# Altium schematic symbol library MCU_Texas.SchLib: 23 symbols
Pins are listed as number, name and electrical type; pins without a type are passive.

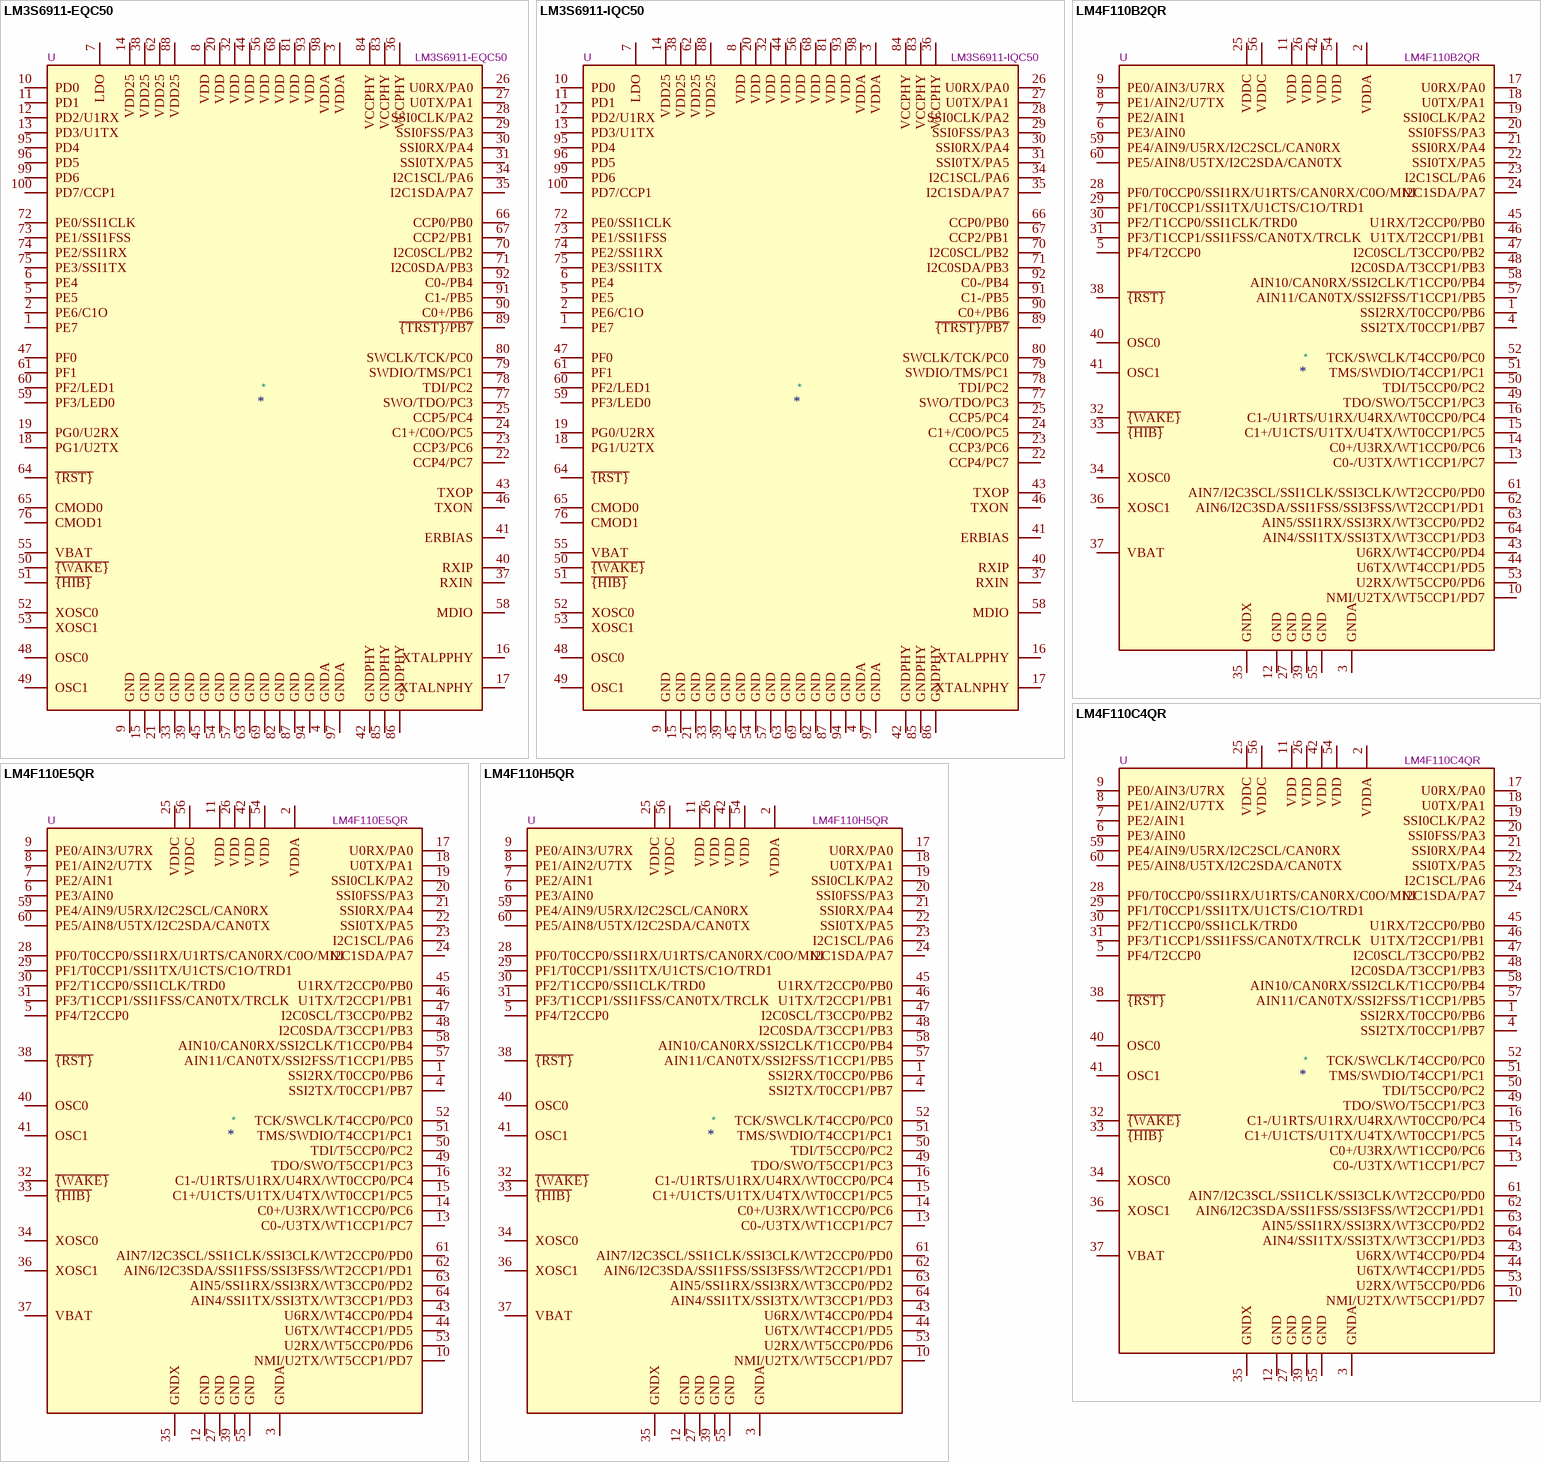
[diagram p0: symbols LM3S6911-EQC50 to LM4F110H5QR]

## LM3S6911-EQC50
designator *  value LM3S6911-EQC50  Reference: U
Ti Stellaris ARM-M3 MCU Ethernet PHY, LQFP100; ki_keywords: MCU ARM M3 Stellaris PHY ETH NRND; ki_fp_filters: LQFP*14x14mm*P0.5mm*; Footprint: Package_QFP:LQFP-100_14x14mm_P0.5mm; Datasheet: http://www.ti.com/lit/ds/symlink/lm3s6911.pdf; Description_: Ti Stellaris ARM-M3 MCU Ethernet PHY, LQFP100
pins: 1 PE7, 2 PE6/C1O, 3 VDDA, 4 GNDA, 5 PE5, 6 PE4, 7 LDO, 8 VDD, 9 GND, 10 PD0, 11 PD1, 12 PD2/U1RX, 13 PD3/U1TX, 14 VDD25, 15 GND, 16 XTALPPHY, 17 XTALNPHY, 18 PG1/U2TX, 19 PG0/U2RX, 20 VDD, 21 GND, 22 CCP4/PC7, 23 CCP3/PC6, 24 C1+/C0O/PC5, 25 CCP5/PC4, 26 U0RX/PA0, 27 U0TX/PA1, 28 SSI0CLK/PA2, 29 SSI0FSS/PA3, 30 SSI0RX/PA4, 31 SSI0TX/PA5, 32 VDD, 33 GND, 34 I2C1SCL/PA6, 35 I2C1SDA/PA7, 36 VCCPHY, 37 RXIN, 38 VDD25, 39 GND, 40 RXIP, 41 ERBIAS, 42 GNDPHY, 43 TXOP, 44 VDD, 45 GND, 46 TXON, 47 PF0, 48 OSC0, 49 OSC1, 50 ~{{WAKE}}, 51 ~{{HIB}}, 52 XOSC0, 53 XOSC1, 54 GND, 55 VBAT, 56 VDD, 57 GND, 58 MDIO, 59 PF3/LED0, 60 PF2/LED1, 61 PF1, 62 VDD25, 63 GND, 64 ~{{RST}}, 65 CMOD0, 66 CCP0/PB0, 67 CCP2/PB1, 68 VDD, 69 GND, 70 I2C0SCL/PB2, 71 I2C0SDA/PB3, 72 PE0/SSI1CLK, 73 PE1/SSI1FSS, 74 PE2/SSI1RX, 75 PE3/SSI1TX, 76 CMOD1, 77 SWO/TDO/PC3, 78 TDI/PC2, 79 SWDIO/TMS/PC1, 80 SWCLK/TCK/PC0, 81 VDD, 82 GND, 83 VCCPHY, 84 VCCPHY, 85 GNDPHY, 86 GNDPHY, 87 GND, 88 VDD25, 89 ~{{TRST}/PB7}, 90 C0+/PB6, 91 C1-/PB5, 92 C0-/PB4, 93 VDD, 94 GND, 95 PD4, 96 PD5, 97 GNDA, 98 VDDA, 99 PD6, 100 PD7/CCP1

## LM3S6911-IQC50
designator *  value LM3S6911-IQC50  Reference: U
Ti Stellaris ARM-M3 MCU Ethernet PHY, Industrial grade, LQFP100; ki_keywords: MCU ARM M3 Stellaris PHY ETH NRND; ki_fp_filters: LQFP*14x14mm*P0.5mm*; Footprint: Package_QFP:LQFP-100_14x14mm_P0.5mm; Datasheet: http://www.ti.com/lit/ds/symlink/lm3s6911.pdf; Description_: Ti Stellaris ARM-M3 MCU Ethernet PHY, Industrial grade, LQFP100
pins: 1 PE7, 2 PE6/C1O, 3 VDDA, 4 GNDA, 5 PE5, 6 PE4, 7 LDO, 8 VDD, 9 GND, 10 PD0, 11 PD1, 12 PD2/U1RX, 13 PD3/U1TX, 14 VDD25, 15 GND, 16 XTALPPHY, 17 XTALNPHY, 18 PG1/U2TX, 19 PG0/U2RX, 20 VDD, 21 GND, 22 CCP4/PC7, 23 CCP3/PC6, 24 C1+/C0O/PC5, 25 CCP5/PC4, 26 U0RX/PA0, 27 U0TX/PA1, 28 SSI0CLK/PA2, 29 SSI0FSS/PA3, 30 SSI0RX/PA4, 31 SSI0TX/PA5, 32 VDD, 33 GND, 34 I2C1SCL/PA6, 35 I2C1SDA/PA7, 36 VCCPHY, 37 RXIN, 38 VDD25, 39 GND, 40 RXIP, 41 ERBIAS, 42 GNDPHY, 43 TXOP, 44 VDD, 45 GND, 46 TXON, 47 PF0, 48 OSC0, 49 OSC1, 50 ~{{WAKE}}, 51 ~{{HIB}}, 52 XOSC0, 53 XOSC1, 54 GND, 55 VBAT, 56 VDD, 57 GND, 58 MDIO, 59 PF3/LED0, 60 PF2/LED1, 61 PF1, 62 VDD25, 63 GND, 64 ~{{RST}}, 65 CMOD0, 66 CCP0/PB0, 67 CCP2/PB1, 68 VDD, 69 GND, 70 I2C0SCL/PB2, 71 I2C0SDA/PB3, 72 PE0/SSI1CLK, 73 PE1/SSI1FSS, 74 PE2/SSI1RX, 75 PE3/SSI1TX, 76 CMOD1, 77 SWO/TDO/PC3, 78 TDI/PC2, 79 SWDIO/TMS/PC1, 80 SWCLK/TCK/PC0, 81 VDD, 82 GND, 83 VCCPHY, 84 VCCPHY, 85 GNDPHY, 86 GNDPHY, 87 GND, 88 VDD25, 89 ~{{TRST}/PB7}, 90 C0+/PB6, 91 C1-/PB5, 92 C0-/PB4, 93 VDD, 94 GND, 95 PD4, 96 PD5, 97 GNDA, 98 VDDA, 99 PD6, 100 PD7/CCP1

## LM4F110B2QR
designator *  value LM4F110B2QR  Reference: U
Replaced by TM4C1231C3PM, LQFP64; ki_keywords: ARM Stellaris Cortex M4 MCU NRND; ki_fp_filters: LQFP*10x10mm*P0.5*; Footprint: Package_QFP:LQFP-64_10x10mm_P0.5mm; Datasheet: http://www.ti.com/lit/ds/symlink/tm4c1231c3pm.pdf; Description_: Replaced by TM4C1231C3PM, LQFP64
pins: 1 SSI2RX/T0CCP0/PB6, 2 VDDA, 3 GNDA, 4 SSI2TX/T0CCP1/PB7, 5 PF4/T2CCP0, 6 PE3/AIN0, 7 PE2/AIN1, 8 PE1/AIN2/U7TX, 9 PE0/AIN3/U7RX, 10 NMI/U2TX/WT5CCP1/PD7, 11 VDD, 12 GND, 13 C0-/U3TX/WT1CCP1/PC7, 14 C0+/U3RX/WT1CCP0/PC6, 15 C1+/U1CTS/U1TX/U4TX/WT0CCP1/PC5, 16 C1-/U1RTS/U1RX/U4RX/WT0CCP0/PC4, 17 U0RX/PA0, 18 U0TX/PA1, 19 SSI0CLK/PA2, 20 SSI0FSS/PA3, 21 SSI0RX/PA4, 22 SSI0TX/PA5, 23 I2C1SCL/PA6, 24 I2C1SDA/PA7, 25 VDDC, 26 VDD, 27 GND, 28 PF0/T0CCP0/SSI1RX/U1RTS/CAN0RX/C0O/MNI, 29 PF1/T0CCP1/SSI1TX/U1CTS/C1O/TRD1, 30 PF2/T1CCP0/SSI1CLK/TRD0, 31 PF3/T1CCP1/SSI1FSS/CAN0TX/TRCLK, 32 ~{{WAKE}}, 33 ~{{HIB}}, 34 XOSC0, 35 GNDX, 36 XOSC1, 37 VBAT, 38 ~{{RST}}, 39 GND, 40 OSC0, 41 OSC1, 42 VDD, 43 U6RX/WT4CCP0/PD4, 44 U6TX/WT4CCP1/PD5, 45 U1RX/T2CCP0/PB0, 46 U1TX/T2CCP1/PB1, 47 I2C0SCL/T3CCP0/PB2, 48 I2C0SDA/T3CCP1/PB3, 49 TDO/SWO/T5CCP1/PC3, 50 TDI/T5CCP0/PC2, 51 TMS/SWDIO/T4CCP1/PC1, 52 TCK/SWCLK/T4CCP0/PC0, 53 U2RX/WT5CCP0/PD6, 54 VDD, 55 GND, 56 VDDC, 57 AIN11/CAN0TX/SSI2FSS/T1CCP1/PB5, 58 AIN10/CAN0RX/SSI2CLK/T1CCP0/PB4, 59 PE4/AIN9/U5RX/I2C2SCL/CAN0RX, 60 PE5/AIN8/U5TX/I2C2SDA/CAN0TX, 61 AIN7/I2C3SCL/SSI1CLK/SSI3CLK/WT2CCP0/PD0, 62 AIN6/I2C3SDA/SSI1FSS/SSI3FSS/WT2CCP1/PD1, 63 AIN5/SSI1RX/SSI3RX/WT3CCP0/PD2, 64 AIN4/SSI1TX/SSI3TX/WT3CCP1/PD3

## LM4F110C4QR
designator *  value LM4F110C4QR  Reference: U
Replaced by TM4C1231D5PM, LQFP64; ki_keywords: ARM Stellaris Cortex M4 MCU NRND; ki_fp_filters: LQFP*10x10mm*P0.5*; Footprint: Package_QFP:LQFP-64_10x10mm_P0.5mm; Datasheet: http://www.ti.com/lit/ds/symlink/tm4c1231d5pm.pdf; Description_: Replaced by TM4C1231D5PM, LQFP64
pins: 1 SSI2RX/T0CCP0/PB6, 2 VDDA, 3 GNDA, 4 SSI2TX/T0CCP1/PB7, 5 PF4/T2CCP0, 6 PE3/AIN0, 7 PE2/AIN1, 8 PE1/AIN2/U7TX, 9 PE0/AIN3/U7RX, 10 NMI/U2TX/WT5CCP1/PD7, 11 VDD, 12 GND, 13 C0-/U3TX/WT1CCP1/PC7, 14 C0+/U3RX/WT1CCP0/PC6, 15 C1+/U1CTS/U1TX/U4TX/WT0CCP1/PC5, 16 C1-/U1RTS/U1RX/U4RX/WT0CCP0/PC4, 17 U0RX/PA0, 18 U0TX/PA1, 19 SSI0CLK/PA2, 20 SSI0FSS/PA3, 21 SSI0RX/PA4, 22 SSI0TX/PA5, 23 I2C1SCL/PA6, 24 I2C1SDA/PA7, 25 VDDC, 26 VDD, 27 GND, 28 PF0/T0CCP0/SSI1RX/U1RTS/CAN0RX/C0O/MNI, 29 PF1/T0CCP1/SSI1TX/U1CTS/C1O/TRD1, 30 PF2/T1CCP0/SSI1CLK/TRD0, 31 PF3/T1CCP1/SSI1FSS/CAN0TX/TRCLK, 32 ~{{WAKE}}, 33 ~{{HIB}}, 34 XOSC0, 35 GNDX, 36 XOSC1, 37 VBAT, 38 ~{{RST}}, 39 GND, 40 OSC0, 41 OSC1, 42 VDD, 43 U6RX/WT4CCP0/PD4, 44 U6TX/WT4CCP1/PD5, 45 U1RX/T2CCP0/PB0, 46 U1TX/T2CCP1/PB1, 47 I2C0SCL/T3CCP0/PB2, 48 I2C0SDA/T3CCP1/PB3, 49 TDO/SWO/T5CCP1/PC3, 50 TDI/T5CCP0/PC2, 51 TMS/SWDIO/T4CCP1/PC1, 52 TCK/SWCLK/T4CCP0/PC0, 53 U2RX/WT5CCP0/PD6, 54 VDD, 55 GND, 56 VDDC, 57 AIN11/CAN0TX/SSI2FSS/T1CCP1/PB5, 58 AIN10/CAN0RX/SSI2CLK/T1CCP0/PB4, 59 PE4/AIN9/U5RX/I2C2SCL/CAN0RX, 60 PE5/AIN8/U5TX/I2C2SDA/CAN0TX, 61 AIN7/I2C3SCL/SSI1CLK/SSI3CLK/WT2CCP0/PD0, 62 AIN6/I2C3SDA/SSI1FSS/SSI3FSS/WT2CCP1/PD1, 63 AIN5/SSI1RX/SSI3RX/WT3CCP0/PD2, 64 AIN4/SSI1TX/SSI3TX/WT3CCP1/PD3

## LM4F110E5QR
designator *  value LM4F110E5QR  Reference: U
Replaced by TM4C1231E6PM, LQFP64; ki_keywords: ARM Stellaris Cortex M4 MCU NRND; ki_fp_filters: LQFP*10x10mm*P0.5*; Footprint: Package_QFP:LQFP-64_10x10mm_P0.5mm; Datasheet: http://www.ti.com/lit/ds/symlink/tm4c1231e6pm.pdf; Description_: Replaced by TM4C1231E6PM, LQFP64
pins: 1 SSI2RX/T0CCP0/PB6, 2 VDDA, 3 GNDA, 4 SSI2TX/T0CCP1/PB7, 5 PF4/T2CCP0, 6 PE3/AIN0, 7 PE2/AIN1, 8 PE1/AIN2/U7TX, 9 PE0/AIN3/U7RX, 10 NMI/U2TX/WT5CCP1/PD7, 11 VDD, 12 GND, 13 C0-/U3TX/WT1CCP1/PC7, 14 C0+/U3RX/WT1CCP0/PC6, 15 C1+/U1CTS/U1TX/U4TX/WT0CCP1/PC5, 16 C1-/U1RTS/U1RX/U4RX/WT0CCP0/PC4, 17 U0RX/PA0, 18 U0TX/PA1, 19 SSI0CLK/PA2, 20 SSI0FSS/PA3, 21 SSI0RX/PA4, 22 SSI0TX/PA5, 23 I2C1SCL/PA6, 24 I2C1SDA/PA7, 25 VDDC, 26 VDD, 27 GND, 28 PF0/T0CCP0/SSI1RX/U1RTS/CAN0RX/C0O/MNI, 29 PF1/T0CCP1/SSI1TX/U1CTS/C1O/TRD1, 30 PF2/T1CCP0/SSI1CLK/TRD0, 31 PF3/T1CCP1/SSI1FSS/CAN0TX/TRCLK, 32 ~{{WAKE}}, 33 ~{{HIB}}, 34 XOSC0, 35 GNDX, 36 XOSC1, 37 VBAT, 38 ~{{RST}}, 39 GND, 40 OSC0, 41 OSC1, 42 VDD, 43 U6RX/WT4CCP0/PD4, 44 U6TX/WT4CCP1/PD5, 45 U1RX/T2CCP0/PB0, 46 U1TX/T2CCP1/PB1, 47 I2C0SCL/T3CCP0/PB2, 48 I2C0SDA/T3CCP1/PB3, 49 TDO/SWO/T5CCP1/PC3, 50 TDI/T5CCP0/PC2, 51 TMS/SWDIO/T4CCP1/PC1, 52 TCK/SWCLK/T4CCP0/PC0, 53 U2RX/WT5CCP0/PD6, 54 VDD, 55 GND, 56 VDDC, 57 AIN11/CAN0TX/SSI2FSS/T1CCP1/PB5, 58 AIN10/CAN0RX/SSI2CLK/T1CCP0/PB4, 59 PE4/AIN9/U5RX/I2C2SCL/CAN0RX, 60 PE5/AIN8/U5TX/I2C2SDA/CAN0TX, 61 AIN7/I2C3SCL/SSI1CLK/SSI3CLK/WT2CCP0/PD0, 62 AIN6/I2C3SDA/SSI1FSS/SSI3FSS/WT2CCP1/PD1, 63 AIN5/SSI1RX/SSI3RX/WT3CCP0/PD2, 64 AIN4/SSI1TX/SSI3TX/WT3CCP1/PD3

## LM4F110H5QR
designator *  value LM4F110H5QR  Reference: U
Replaced by TM4C1231H6PM, LQFP64; ki_keywords: ARM Stellaris Cortex M4 MCU NRND; ki_fp_filters: LQFP*10x10mm*P0.5*; Footprint: Package_QFP:LQFP-64_10x10mm_P0.5mm; Datasheet: http://www.ti.com/lit/ds/symlink/tm4c1231h6pm.pdf; Description_: Replaced by TM4C1231H6PM, LQFP64
pins: 1 SSI2RX/T0CCP0/PB6, 2 VDDA, 3 GNDA, 4 SSI2TX/T0CCP1/PB7, 5 PF4/T2CCP0, 6 PE3/AIN0, 7 PE2/AIN1, 8 PE1/AIN2/U7TX, 9 PE0/AIN3/U7RX, 10 NMI/U2TX/WT5CCP1/PD7, 11 VDD, 12 GND, 13 C0-/U3TX/WT1CCP1/PC7, 14 C0+/U3RX/WT1CCP0/PC6, 15 C1+/U1CTS/U1TX/U4TX/WT0CCP1/PC5, 16 C1-/U1RTS/U1RX/U4RX/WT0CCP0/PC4, 17 U0RX/PA0, 18 U0TX/PA1, 19 SSI0CLK/PA2, 20 SSI0FSS/PA3, 21 SSI0RX/PA4, 22 SSI0TX/PA5, 23 I2C1SCL/PA6, 24 I2C1SDA/PA7, 25 VDDC, 26 VDD, 27 GND, 28 PF0/T0CCP0/SSI1RX/U1RTS/CAN0RX/C0O/MNI, 29 PF1/T0CCP1/SSI1TX/U1CTS/C1O/TRD1, 30 PF2/T1CCP0/SSI1CLK/TRD0, 31 PF3/T1CCP1/SSI1FSS/CAN0TX/TRCLK, 32 ~{{WAKE}}, 33 ~{{HIB}}, 34 XOSC0, 35 GNDX, 36 XOSC1, 37 VBAT, 38 ~{{RST}}, 39 GND, 40 OSC0, 41 OSC1, 42 VDD, 43 U6RX/WT4CCP0/PD4, 44 U6TX/WT4CCP1/PD5, 45 U1RX/T2CCP0/PB0, 46 U1TX/T2CCP1/PB1, 47 I2C0SCL/T3CCP0/PB2, 48 I2C0SDA/T3CCP1/PB3, 49 TDO/SWO/T5CCP1/PC3, 50 TDI/T5CCP0/PC2, 51 TMS/SWDIO/T4CCP1/PC1, 52 TCK/SWCLK/T4CCP0/PC0, 53 U2RX/WT5CCP0/PD6, 54 VDD, 55 GND, 56 VDDC, 57 AIN11/CAN0TX/SSI2FSS/T1CCP1/PB5, 58 AIN10/CAN0RX/SSI2CLK/T1CCP0/PB4, 59 PE4/AIN9/U5RX/I2C2SCL/CAN0RX, 60 PE5/AIN8/U5TX/I2C2SDA/CAN0TX, 61 AIN7/I2C3SCL/SSI1CLK/SSI3CLK/WT2CCP0/PD0, 62 AIN6/I2C3SDA/SSI1FSS/SSI3FSS/WT2CCP1/PD1, 63 AIN5/SSI1RX/SSI3RX/WT3CCP0/PD2, 64 AIN4/SSI1TX/SSI3TX/WT3CCP1/PD3

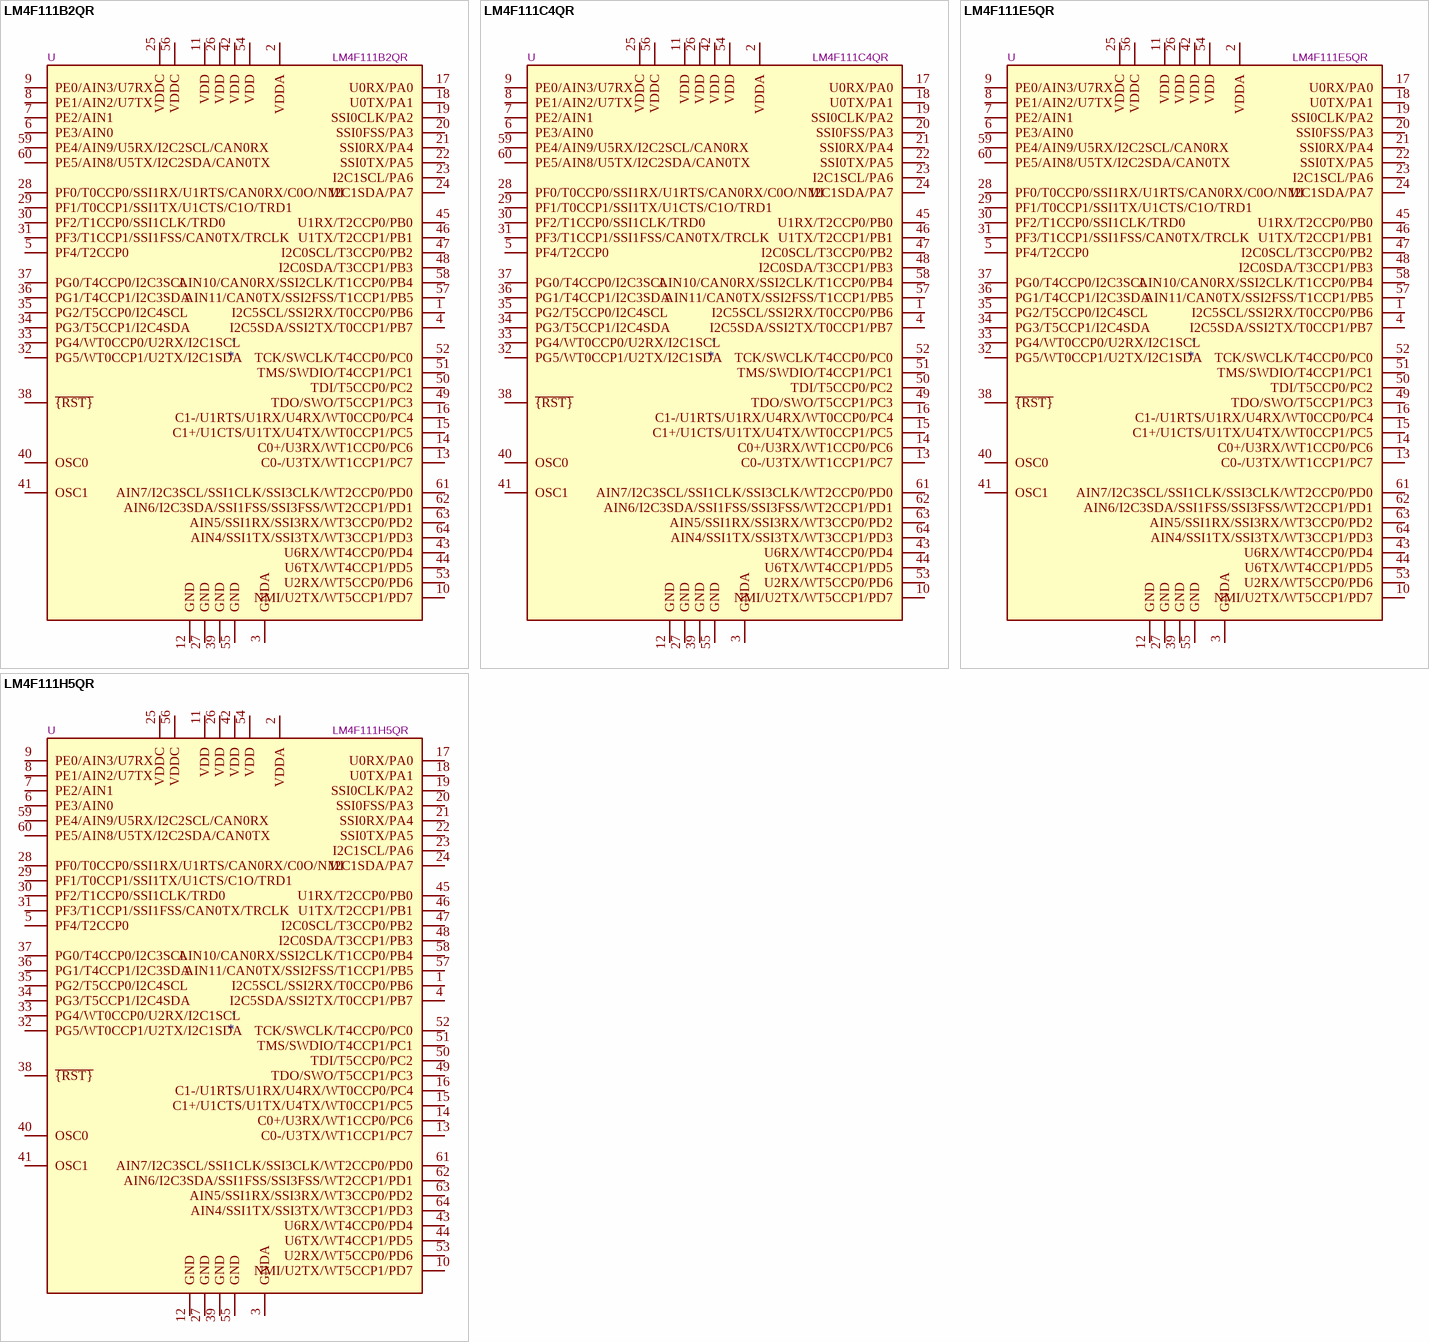
[diagram p1: symbols LM4F111B2QR to LM4F111H5QR]

## LM4F111B2QR
designator *  value LM4F111B2QR  Reference: U
Replaced by TM4C1230C3PM, LQFP64; ki_keywords: ARM Stellaris Cortex M4 MCU NRND; ki_fp_filters: LQFP*10x10mm*P0.5mm*; Footprint: Package_QFP:LQFP-64_10x10mm_P0.5mm; Datasheet: http://www.ti.com/lit/ds/symlink/tm4c1230c3pm.pdf; Description_: Replaced by TM4C1230C3PM, LQFP64
pins: 1 I2C5SCL/SSI2RX/T0CCP0/PB6, 2 VDDA, 3 GNDA, 4 I2C5SDA/SSI2TX/T0CCP1/PB7, 5 PF4/T2CCP0, 6 PE3/AIN0, 7 PE2/AIN1, 8 PE1/AIN2/U7TX, 9 PE0/AIN3/U7RX, 10 NMI/U2TX/WT5CCP1/PD7, 11 VDD, 12 GND, 13 C0-/U3TX/WT1CCP1/PC7, 14 C0+/U3RX/WT1CCP0/PC6, 15 C1+/U1CTS/U1TX/U4TX/WT0CCP1/PC5, 16 C1-/U1RTS/U1RX/U4RX/WT0CCP0/PC4, 17 U0RX/PA0, 18 U0TX/PA1, 19 SSI0CLK/PA2, 20 SSI0FSS/PA3, 21 SSI0RX/PA4, 22 SSI0TX/PA5, 23 I2C1SCL/PA6, 24 I2C1SDA/PA7, 25 VDDC, 26 VDD, 27 GND, 28 PF0/T0CCP0/SSI1RX/U1RTS/CAN0RX/C0O/NMI, 29 PF1/T0CCP1/SSI1TX/U1CTS/C1O/TRD1, 30 PF2/T1CCP0/SSI1CLK/TRD0, 31 PF3/T1CCP1/SSI1FSS/CAN0TX/TRCLK, 32 PG5/WT0CCP1/U2TX/I2C1SDA, 33 PG4/WT0CCP0/U2RX/I2C1SCL, 34 PG3/T5CCP1/I2C4SDA, 35 PG2/T5CCP0/I2C4SCL, 36 PG1/T4CCP1/I2C3SDA, 37 PG0/T4CCP0/I2C3SCL, 38 ~{{RST}}, 39 GND, 40 OSC0, 41 OSC1, 42 VDD, 43 U6RX/WT4CCP0/PD4, 44 U6TX/WT4CCP1/PD5, 45 U1RX/T2CCP0/PB0, 46 U1TX/T2CCP1/PB1, 47 I2C0SCL/T3CCP0/PB2, 48 I2C0SDA/T3CCP1/PB3, 49 TDO/SWO/T5CCP1/PC3, 50 TDI/T5CCP0/PC2, 51 TMS/SWDIO/T4CCP1/PC1, 52 TCK/SWCLK/T4CCP0/PC0, 53 U2RX/WT5CCP0/PD6, 54 VDD, 55 GND, 56 VDDC, 57 AIN11/CAN0TX/SSI2FSS/T1CCP1/PB5, 58 AIN10/CAN0RX/SSI2CLK/T1CCP0/PB4, 59 PE4/AIN9/U5RX/I2C2SCL/CAN0RX, 60 PE5/AIN8/U5TX/I2C2SDA/CAN0TX, 61 AIN7/I2C3SCL/SSI1CLK/SSI3CLK/WT2CCP0/PD0, 62 AIN6/I2C3SDA/SSI1FSS/SSI3FSS/WT2CCP1/PD1, 63 AIN5/SSI1RX/SSI3RX/WT3CCP0/PD2, 64 AIN4/SSI1TX/SSI3TX/WT3CCP1/PD3

## LM4F111C4QR
designator *  value LM4F111C4QR  Reference: U
Replaced by TM4C1230D5PM, LQFP64; ki_keywords: ARM Stellaris Cortex M4 MCU NRND; ki_fp_filters: LQFP*10x10mm*P0.5mm*; Footprint: Package_QFP:LQFP-64_10x10mm_P0.5mm; Datasheet: http://www.ti.com/lit/ds/symlink/tm4c1230d5pm.pdf; Description_: Replaced by TM4C1230D5PM, LQFP64
pins: 1 I2C5SCL/SSI2RX/T0CCP0/PB6, 2 VDDA, 3 GNDA, 4 I2C5SDA/SSI2TX/T0CCP1/PB7, 5 PF4/T2CCP0, 6 PE3/AIN0, 7 PE2/AIN1, 8 PE1/AIN2/U7TX, 9 PE0/AIN3/U7RX, 10 NMI/U2TX/WT5CCP1/PD7, 11 VDD, 12 GND, 13 C0-/U3TX/WT1CCP1/PC7, 14 C0+/U3RX/WT1CCP0/PC6, 15 C1+/U1CTS/U1TX/U4TX/WT0CCP1/PC5, 16 C1-/U1RTS/U1RX/U4RX/WT0CCP0/PC4, 17 U0RX/PA0, 18 U0TX/PA1, 19 SSI0CLK/PA2, 20 SSI0FSS/PA3, 21 SSI0RX/PA4, 22 SSI0TX/PA5, 23 I2C1SCL/PA6, 24 I2C1SDA/PA7, 25 VDDC, 26 VDD, 27 GND, 28 PF0/T0CCP0/SSI1RX/U1RTS/CAN0RX/C0O/NMI, 29 PF1/T0CCP1/SSI1TX/U1CTS/C1O/TRD1, 30 PF2/T1CCP0/SSI1CLK/TRD0, 31 PF3/T1CCP1/SSI1FSS/CAN0TX/TRCLK, 32 PG5/WT0CCP1/U2TX/I2C1SDA, 33 PG4/WT0CCP0/U2RX/I2C1SCL, 34 PG3/T5CCP1/I2C4SDA, 35 PG2/T5CCP0/I2C4SCL, 36 PG1/T4CCP1/I2C3SDA, 37 PG0/T4CCP0/I2C3SCL, 38 ~{{RST}}, 39 GND, 40 OSC0, 41 OSC1, 42 VDD, 43 U6RX/WT4CCP0/PD4, 44 U6TX/WT4CCP1/PD5, 45 U1RX/T2CCP0/PB0, 46 U1TX/T2CCP1/PB1, 47 I2C0SCL/T3CCP0/PB2, 48 I2C0SDA/T3CCP1/PB3, 49 TDO/SWO/T5CCP1/PC3, 50 TDI/T5CCP0/PC2, 51 TMS/SWDIO/T4CCP1/PC1, 52 TCK/SWCLK/T4CCP0/PC0, 53 U2RX/WT5CCP0/PD6, 54 VDD, 55 GND, 56 VDDC, 57 AIN11/CAN0TX/SSI2FSS/T1CCP1/PB5, 58 AIN10/CAN0RX/SSI2CLK/T1CCP0/PB4, 59 PE4/AIN9/U5RX/I2C2SCL/CAN0RX, 60 PE5/AIN8/U5TX/I2C2SDA/CAN0TX, 61 AIN7/I2C3SCL/SSI1CLK/SSI3CLK/WT2CCP0/PD0, 62 AIN6/I2C3SDA/SSI1FSS/SSI3FSS/WT2CCP1/PD1, 63 AIN5/SSI1RX/SSI3RX/WT3CCP0/PD2, 64 AIN4/SSI1TX/SSI3TX/WT3CCP1/PD3

## LM4F111E5QR
designator *  value LM4F111E5QR  Reference: U
Replaced by TM4C1230E6PM, LQFP64; ki_keywords: ARM Stellaris Cortex M4 MCU NRND; ki_fp_filters: LQFP*10x10mm*P0.5mm*; Footprint: Package_QFP:LQFP-64_10x10mm_P0.5mm; Datasheet: http://www.ti.com/lit/ds/symlink/tm4c1230c3pm.pdf; Description_: Replaced by TM4C1230E6PM, LQFP64
pins: 1 I2C5SCL/SSI2RX/T0CCP0/PB6, 2 VDDA, 3 GNDA, 4 I2C5SDA/SSI2TX/T0CCP1/PB7, 5 PF4/T2CCP0, 6 PE3/AIN0, 7 PE2/AIN1, 8 PE1/AIN2/U7TX, 9 PE0/AIN3/U7RX, 10 NMI/U2TX/WT5CCP1/PD7, 11 VDD, 12 GND, 13 C0-/U3TX/WT1CCP1/PC7, 14 C0+/U3RX/WT1CCP0/PC6, 15 C1+/U1CTS/U1TX/U4TX/WT0CCP1/PC5, 16 C1-/U1RTS/U1RX/U4RX/WT0CCP0/PC4, 17 U0RX/PA0, 18 U0TX/PA1, 19 SSI0CLK/PA2, 20 SSI0FSS/PA3, 21 SSI0RX/PA4, 22 SSI0TX/PA5, 23 I2C1SCL/PA6, 24 I2C1SDA/PA7, 25 VDDC, 26 VDD, 27 GND, 28 PF0/T0CCP0/SSI1RX/U1RTS/CAN0RX/C0O/NMI, 29 PF1/T0CCP1/SSI1TX/U1CTS/C1O/TRD1, 30 PF2/T1CCP0/SSI1CLK/TRD0, 31 PF3/T1CCP1/SSI1FSS/CAN0TX/TRCLK, 32 PG5/WT0CCP1/U2TX/I2C1SDA, 33 PG4/WT0CCP0/U2RX/I2C1SCL, 34 PG3/T5CCP1/I2C4SDA, 35 PG2/T5CCP0/I2C4SCL, 36 PG1/T4CCP1/I2C3SDA, 37 PG0/T4CCP0/I2C3SCL, 38 ~{{RST}}, 39 GND, 40 OSC0, 41 OSC1, 42 VDD, 43 U6RX/WT4CCP0/PD4, 44 U6TX/WT4CCP1/PD5, 45 U1RX/T2CCP0/PB0, 46 U1TX/T2CCP1/PB1, 47 I2C0SCL/T3CCP0/PB2, 48 I2C0SDA/T3CCP1/PB3, 49 TDO/SWO/T5CCP1/PC3, 50 TDI/T5CCP0/PC2, 51 TMS/SWDIO/T4CCP1/PC1, 52 TCK/SWCLK/T4CCP0/PC0, 53 U2RX/WT5CCP0/PD6, 54 VDD, 55 GND, 56 VDDC, 57 AIN11/CAN0TX/SSI2FSS/T1CCP1/PB5, 58 AIN10/CAN0RX/SSI2CLK/T1CCP0/PB4, 59 PE4/AIN9/U5RX/I2C2SCL/CAN0RX, 60 PE5/AIN8/U5TX/I2C2SDA/CAN0TX, 61 AIN7/I2C3SCL/SSI1CLK/SSI3CLK/WT2CCP0/PD0, 62 AIN6/I2C3SDA/SSI1FSS/SSI3FSS/WT2CCP1/PD1, 63 AIN5/SSI1RX/SSI3RX/WT3CCP0/PD2, 64 AIN4/SSI1TX/SSI3TX/WT3CCP1/PD3

## LM4F111H5QR
designator *  value LM4F111H5QR  Reference: U
Replaced by TM4C1230H6PM, LQFP64; ki_keywords: ARM Stellaris Cortex M4 MCU NRND; ki_fp_filters: LQFP*10x10mm*P0.5mm*; Footprint: Package_QFP:LQFP-64_10x10mm_P0.5mm; Datasheet: http://www.ti.com/lit/ds/symlink/tm4c1230h6pm.pdf; Description_: Replaced by TM4C1230H6PM, LQFP64
pins: 1 I2C5SCL/SSI2RX/T0CCP0/PB6, 2 VDDA, 3 GNDA, 4 I2C5SDA/SSI2TX/T0CCP1/PB7, 5 PF4/T2CCP0, 6 PE3/AIN0, 7 PE2/AIN1, 8 PE1/AIN2/U7TX, 9 PE0/AIN3/U7RX, 10 NMI/U2TX/WT5CCP1/PD7, 11 VDD, 12 GND, 13 C0-/U3TX/WT1CCP1/PC7, 14 C0+/U3RX/WT1CCP0/PC6, 15 C1+/U1CTS/U1TX/U4TX/WT0CCP1/PC5, 16 C1-/U1RTS/U1RX/U4RX/WT0CCP0/PC4, 17 U0RX/PA0, 18 U0TX/PA1, 19 SSI0CLK/PA2, 20 SSI0FSS/PA3, 21 SSI0RX/PA4, 22 SSI0TX/PA5, 23 I2C1SCL/PA6, 24 I2C1SDA/PA7, 25 VDDC, 26 VDD, 27 GND, 28 PF0/T0CCP0/SSI1RX/U1RTS/CAN0RX/C0O/NMI, 29 PF1/T0CCP1/SSI1TX/U1CTS/C1O/TRD1, 30 PF2/T1CCP0/SSI1CLK/TRD0, 31 PF3/T1CCP1/SSI1FSS/CAN0TX/TRCLK, 32 PG5/WT0CCP1/U2TX/I2C1SDA, 33 PG4/WT0CCP0/U2RX/I2C1SCL, 34 PG3/T5CCP1/I2C4SDA, 35 PG2/T5CCP0/I2C4SCL, 36 PG1/T4CCP1/I2C3SDA, 37 PG0/T4CCP0/I2C3SCL, 38 ~{{RST}}, 39 GND, 40 OSC0, 41 OSC1, 42 VDD, 43 U6RX/WT4CCP0/PD4, 44 U6TX/WT4CCP1/PD5, 45 U1RX/T2CCP0/PB0, 46 U1TX/T2CCP1/PB1, 47 I2C0SCL/T3CCP0/PB2, 48 I2C0SDA/T3CCP1/PB3, 49 TDO/SWO/T5CCP1/PC3, 50 TDI/T5CCP0/PC2, 51 TMS/SWDIO/T4CCP1/PC1, 52 TCK/SWCLK/T4CCP0/PC0, 53 U2RX/WT5CCP0/PD6, 54 VDD, 55 GND, 56 VDDC, 57 AIN11/CAN0TX/SSI2FSS/T1CCP1/PB5, 58 AIN10/CAN0RX/SSI2CLK/T1CCP0/PB4, 59 PE4/AIN9/U5RX/I2C2SCL/CAN0RX, 60 PE5/AIN8/U5TX/I2C2SDA/CAN0TX, 61 AIN7/I2C3SCL/SSI1CLK/SSI3CLK/WT2CCP0/PD0, 62 AIN6/I2C3SDA/SSI1FSS/SSI3FSS/WT2CCP1/PD1, 63 AIN5/SSI1RX/SSI3RX/WT3CCP0/PD2, 64 AIN4/SSI1TX/SSI3TX/WT3CCP1/PD3

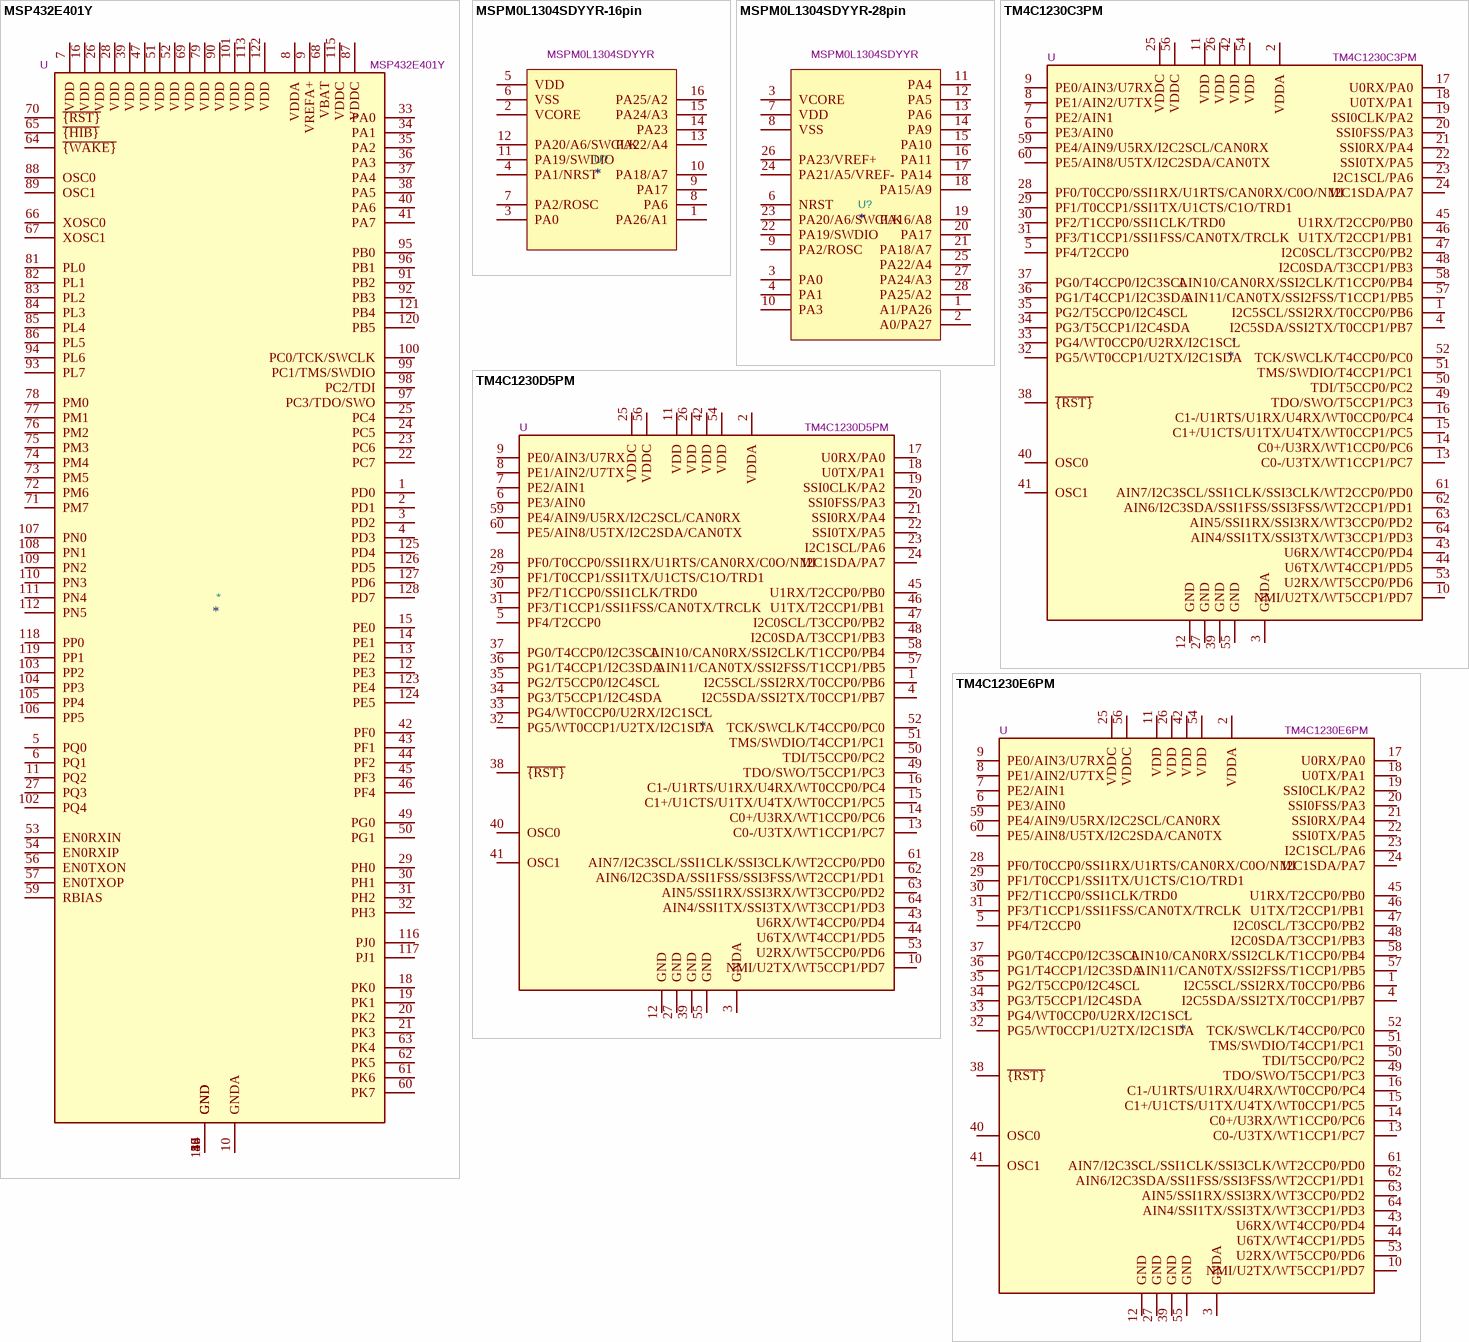
[diagram p2: symbols MSP432E401Y to TM4C1230E6PM]

## MSP432E401Y
designator *  value MSP432E401Y  Reference: U
ARM Cortex-M4F MCU, 1024KB flash, 256KB RAM, 6KB EEPROM, 120MHz, 3.0-3.6V, TQFP-128; ki_keywords: ARM Cortex-M4F MSP432 MSP432E4 MSP432E401; ki_fp_filters: LQFP*14x14mm*P0.4mm*; Footprint: Package_QFP:LQFP-128_14x14mm_P0.4mm; Datasheet: http://www.ti.com/lit/ds/symlink/msp432e401y.pdf; Description_: ARM Cortex-M4F MCU, 1024KB flash, 256KB RAM, 6KB EEPROM, 120MHz, 3.0-3.6V, TQFP-128
pins: 1 PD0, 2 PD1, 3 PD2, 4 PD3, 5 PQ0, 6 PQ1, 7 VDD, 8 VDDA, 9 VREFA+, 10 GNDA, 11 PQ2, 12 PE3, 13 PE2, 14 PE1, 15 PE0, 16 VDD, 17 GND, 18 PK0, 19 PK1, 20 PK2, 21 PK3, 22 PC7, 23 PC6, 24 PC5, 25 PC4, 26 VDD, 27 PQ3, 28 VDD, 29 PH0, 30 PH1, 31 PH2, 32 PH3, 33 PA0, 34 PA1, 35 PA2, 36 PA3, 37 PA4, 38 PA5, 39 VDD, 40 PA6, 41 PA7, 42 PF0, 43 PF1, 44 PF2, 45 PF3, 46 PF4, 47 VDD, 48 GND, 49 PG0, 50 PG1, 51 VDD, 52 VDD, 53 EN0RXIN, 54 EN0RXIP, 55 GND, 56 EN0TXON, 57 EN0TXOP, 58 GND, 59 RBIAS, 60 PK7, 61 PK6, 62 PK5, 63 PK4, 64 ~{{WAKE}}, 65 ~{{HIB}}, 66 XOSC0, 67 XOSC1, 68 VBAT, 69 VDD, 70 ~{{RST}}, 71 PM7, 72 PM6, 73 PM5, 74 PM4, 75 PM3, 76 PM2, 77 PM1, 78 PM0, 79 VDD, 80 GND, 81 PL0, 82 PL1, 83 PL2, 84 PL3, 85 PL4, 86 PL5, 87 VDDC, 88 OSC0, 89 OSC1, 90 VDD, 91 PB2, 92 PB3, 93 PL7, 94 PL6, 95 PB0, 96 PB1, 97 PC3/TDO/SWO, 98 PC2/TDI, 99 PC1/TMS/SWDIO, 100 PC0/TCK/SWCLK, 101 VDD, 102 PQ4, 103 PP2, 104 PP3, 105 PP4, 106 PP5, 107 PN0, 108 PN1, 109 PN2, 110 PN3, 111 PN4, 112 PN5, 113 VDD, 114 GND, 115 VDDC, 116 PJ0, 117 PJ1, 118 PP0, 119 PP1, 120 PB5, 121 PB4, 122 VDD, 123 PE4, 124 PE5, 125 PD4, 126 PD5, 127 PD6, 128 PD7

## MSPM0L1304SDYYR-16pin
designator U?  value MSPM0L1304SDYYR
32-MHz Arm® Cortex®-M0+ MCU with 16-KB flash, 2-KB SRAM, 12-bit ADC, comparator, OPA; ki_keywords: ARM Cortex-M4; ki_fp_filters: LQFP*14x14mm*P0.4mm*; Reference: U; Datasheet: https://www.ti.com/lit/ds/symlink/mspm0l1304.pdf?ts=1768099615606&ref_url=https%253A%252F%252Fwww.ti.com%252Fproduct%252FMSPM0L1304%252Fpart-details%252FMSPM0L1304SDYYR; Description_: 32-MHz Arm® Cortex®-M0+ MCU with 16-KB flash, 2-KB SRAM, 12-bit ADC, comparator, OPA
footprint SOT-23-16_Thin_3.36x4.3mm_P0.5mm
pins: 1 PA26/A1, 2 VCORE, 3 PA0, 4 PA1/NRST, 5 VDD, 6 VSS, 7 PA2/ROSC, 8 PA6, 9 PA17, 10 PA18/A7, 11 PA19/SWDIO, 12 PA20/A6/SWCLK, 13 PA22/A4, 14 PA23, 15 PA24/A3, 16 PA25/A2

## MSPM0L1304SDYYR-28pin
designator U?  value MSPM0L1304SDYYR
32-MHz Arm® Cortex®-M0+ MCU with 16-KB flash, 2-KB SRAM, 12-bit ADC, comparator, OPA; ki_keywords: ARM Cortex-M4; ki_fp_filters: LQFP*14x14mm*P0.4mm*; Reference: U; Datasheet: https://www.ti.com/lit/ds/symlink/mspm0l1304.pdf?ts=1768099615606&ref_url=https%253A%252F%252Fwww.ti.com%252Fproduct%252FMSPM0L1304%252Fpart-details%252FMSPM0L1304SDYYR; Description_: 32-MHz Arm® Cortex®-M0+ MCU with 16-KB flash, 2-KB SRAM, 12-bit ADC, comparator, OPA
footprint SOT-23-28_Thin_3.0x6.5mm_P0.5mm
pins: 1 A1/PA26, 2 A0/PA27, 3 VCORE, 3 PA0, 4 PA1, 6 NRST, 7 VDD, 8 VSS, 9 PA2/ROSC, 10 PA3, 11 PA4, 12 PA5, 13 PA6, 14 PA9, 15 PA10, 16 PA11, 17 PA14, 18 PA15/A9, 19 PA16/A8, 20 PA17, 21 PA18/A7, 22 PA19/SWDIO, 23 PA20/A6/SWCLK, 24 PA21/A5/VREF-, 25 PA22/A4, 26 PA23/VREF+, 27 PA24/A3, 28 PA25/A2

## TM4C1230C3PM
designator *  value TM4C1230C3PM  Reference: U
Tiva ARM 32bit CortexM4 Microcotroller, 80MHz, 32kB Flash, 12kB SRAM, 2k EEPROM, LQFP64; ki_keywords: ARM Tiva Cortex M4 MCU; ki_fp_filters: LQFP*10x10mm*P0.5mm*; Footprint: Package_QFP:LQFP-64_10x10mm_P0.5mm; Datasheet: http://www.ti.com/lit/ds/symlink/tm4c1230c3pm.pdf; Description_: Tiva ARM 32bit CortexM4 Microcotroller, 80MHz, 32kB Flash, 12kB SRAM, 2k EEPROM, LQFP64
pins: 1 I2C5SCL/SSI2RX/T0CCP0/PB6, 2 VDDA, 3 GNDA, 4 I2C5SDA/SSI2TX/T0CCP1/PB7, 5 PF4/T2CCP0, 6 PE3/AIN0, 7 PE2/AIN1, 8 PE1/AIN2/U7TX, 9 PE0/AIN3/U7RX, 10 NMI/U2TX/WT5CCP1/PD7, 11 VDD, 12 GND, 13 C0-/U3TX/WT1CCP1/PC7, 14 C0+/U3RX/WT1CCP0/PC6, 15 C1+/U1CTS/U1TX/U4TX/WT0CCP1/PC5, 16 C1-/U1RTS/U1RX/U4RX/WT0CCP0/PC4, 17 U0RX/PA0, 18 U0TX/PA1, 19 SSI0CLK/PA2, 20 SSI0FSS/PA3, 21 SSI0RX/PA4, 22 SSI0TX/PA5, 23 I2C1SCL/PA6, 24 I2C1SDA/PA7, 25 VDDC, 26 VDD, 27 GND, 28 PF0/T0CCP0/SSI1RX/U1RTS/CAN0RX/C0O/NMI, 29 PF1/T0CCP1/SSI1TX/U1CTS/C1O/TRD1, 30 PF2/T1CCP0/SSI1CLK/TRD0, 31 PF3/T1CCP1/SSI1FSS/CAN0TX/TRCLK, 32 PG5/WT0CCP1/U2TX/I2C1SDA, 33 PG4/WT0CCP0/U2RX/I2C1SCL, 34 PG3/T5CCP1/I2C4SDA, 35 PG2/T5CCP0/I2C4SCL, 36 PG1/T4CCP1/I2C3SDA, 37 PG0/T4CCP0/I2C3SCL, 38 ~{{RST}}, 39 GND, 40 OSC0, 41 OSC1, 42 VDD, 43 U6RX/WT4CCP0/PD4, 44 U6TX/WT4CCP1/PD5, 45 U1RX/T2CCP0/PB0, 46 U1TX/T2CCP1/PB1, 47 I2C0SCL/T3CCP0/PB2, 48 I2C0SDA/T3CCP1/PB3, 49 TDO/SWO/T5CCP1/PC3, 50 TDI/T5CCP0/PC2, 51 TMS/SWDIO/T4CCP1/PC1, 52 TCK/SWCLK/T4CCP0/PC0, 53 U2RX/WT5CCP0/PD6, 54 VDD, 55 GND, 56 VDDC, 57 AIN11/CAN0TX/SSI2FSS/T1CCP1/PB5, 58 AIN10/CAN0RX/SSI2CLK/T1CCP0/PB4, 59 PE4/AIN9/U5RX/I2C2SCL/CAN0RX, 60 PE5/AIN8/U5TX/I2C2SDA/CAN0TX, 61 AIN7/I2C3SCL/SSI1CLK/SSI3CLK/WT2CCP0/PD0, 62 AIN6/I2C3SDA/SSI1FSS/SSI3FSS/WT2CCP1/PD1, 63 AIN5/SSI1RX/SSI3RX/WT3CCP0/PD2, 64 AIN4/SSI1TX/SSI3TX/WT3CCP1/PD3

## TM4C1230D5PM
designator *  value TM4C1230D5PM  Reference: U
Tiva ARM 32bit CortexM4 Microcotroller, 80MHz, 64kB Flash, 24kB SRAM, 2k EEPROM, LQFP64; ki_keywords: ARM Tiva Cortex M4 MCU; ki_fp_filters: LQFP*10x10mm*P0.5mm*; Footprint: Package_QFP:LQFP-64_10x10mm_P0.5mm; Datasheet: http://www.ti.com/lit/ds/symlink/tm4c1230d5pm.pdf; Description_: Tiva ARM 32bit CortexM4 Microcotroller, 80MHz, 64kB Flash, 24kB SRAM, 2k EEPROM, LQFP64
pins: 1 I2C5SCL/SSI2RX/T0CCP0/PB6, 2 VDDA, 3 GNDA, 4 I2C5SDA/SSI2TX/T0CCP1/PB7, 5 PF4/T2CCP0, 6 PE3/AIN0, 7 PE2/AIN1, 8 PE1/AIN2/U7TX, 9 PE0/AIN3/U7RX, 10 NMI/U2TX/WT5CCP1/PD7, 11 VDD, 12 GND, 13 C0-/U3TX/WT1CCP1/PC7, 14 C0+/U3RX/WT1CCP0/PC6, 15 C1+/U1CTS/U1TX/U4TX/WT0CCP1/PC5, 16 C1-/U1RTS/U1RX/U4RX/WT0CCP0/PC4, 17 U0RX/PA0, 18 U0TX/PA1, 19 SSI0CLK/PA2, 20 SSI0FSS/PA3, 21 SSI0RX/PA4, 22 SSI0TX/PA5, 23 I2C1SCL/PA6, 24 I2C1SDA/PA7, 25 VDDC, 26 VDD, 27 GND, 28 PF0/T0CCP0/SSI1RX/U1RTS/CAN0RX/C0O/NMI, 29 PF1/T0CCP1/SSI1TX/U1CTS/C1O/TRD1, 30 PF2/T1CCP0/SSI1CLK/TRD0, 31 PF3/T1CCP1/SSI1FSS/CAN0TX/TRCLK, 32 PG5/WT0CCP1/U2TX/I2C1SDA, 33 PG4/WT0CCP0/U2RX/I2C1SCL, 34 PG3/T5CCP1/I2C4SDA, 35 PG2/T5CCP0/I2C4SCL, 36 PG1/T4CCP1/I2C3SDA, 37 PG0/T4CCP0/I2C3SCL, 38 ~{{RST}}, 39 GND, 40 OSC0, 41 OSC1, 42 VDD, 43 U6RX/WT4CCP0/PD4, 44 U6TX/WT4CCP1/PD5, 45 U1RX/T2CCP0/PB0, 46 U1TX/T2CCP1/PB1, 47 I2C0SCL/T3CCP0/PB2, 48 I2C0SDA/T3CCP1/PB3, 49 TDO/SWO/T5CCP1/PC3, 50 TDI/T5CCP0/PC2, 51 TMS/SWDIO/T4CCP1/PC1, 52 TCK/SWCLK/T4CCP0/PC0, 53 U2RX/WT5CCP0/PD6, 54 VDD, 55 GND, 56 VDDC, 57 AIN11/CAN0TX/SSI2FSS/T1CCP1/PB5, 58 AIN10/CAN0RX/SSI2CLK/T1CCP0/PB4, 59 PE4/AIN9/U5RX/I2C2SCL/CAN0RX, 60 PE5/AIN8/U5TX/I2C2SDA/CAN0TX, 61 AIN7/I2C3SCL/SSI1CLK/SSI3CLK/WT2CCP0/PD0, 62 AIN6/I2C3SDA/SSI1FSS/SSI3FSS/WT2CCP1/PD1, 63 AIN5/SSI1RX/SSI3RX/WT3CCP0/PD2, 64 AIN4/SSI1TX/SSI3TX/WT3CCP1/PD3

## TM4C1230E6PM
designator *  value TM4C1230E6PM  Reference: U
Tiva ARM 32bit CortexM4 Microcotroller, 80MHz, 128kB Flash, 32kB SRAM, 2k EEPROM, LQFP64; ki_keywords: ARM Tiva Cortex M4 MCU; ki_fp_filters: LQFP*10x10mm*P0.5mm*; Footprint: Package_QFP:LQFP-64_10x10mm_P0.5mm; Datasheet: http://www.ti.com/lit/ds/symlink/tm4c1230e6pm.pdf; Description_: Tiva ARM 32bit CortexM4 Microcotroller, 80MHz, 128kB Flash, 32kB SRAM, 2k EEPROM, LQFP64
pins: 1 I2C5SCL/SSI2RX/T0CCP0/PB6, 2 VDDA, 3 GNDA, 4 I2C5SDA/SSI2TX/T0CCP1/PB7, 5 PF4/T2CCP0, 6 PE3/AIN0, 7 PE2/AIN1, 8 PE1/AIN2/U7TX, 9 PE0/AIN3/U7RX, 10 NMI/U2TX/WT5CCP1/PD7, 11 VDD, 12 GND, 13 C0-/U3TX/WT1CCP1/PC7, 14 C0+/U3RX/WT1CCP0/PC6, 15 C1+/U1CTS/U1TX/U4TX/WT0CCP1/PC5, 16 C1-/U1RTS/U1RX/U4RX/WT0CCP0/PC4, 17 U0RX/PA0, 18 U0TX/PA1, 19 SSI0CLK/PA2, 20 SSI0FSS/PA3, 21 SSI0RX/PA4, 22 SSI0TX/PA5, 23 I2C1SCL/PA6, 24 I2C1SDA/PA7, 25 VDDC, 26 VDD, 27 GND, 28 PF0/T0CCP0/SSI1RX/U1RTS/CAN0RX/C0O/NMI, 29 PF1/T0CCP1/SSI1TX/U1CTS/C1O/TRD1, 30 PF2/T1CCP0/SSI1CLK/TRD0, 31 PF3/T1CCP1/SSI1FSS/CAN0TX/TRCLK, 32 PG5/WT0CCP1/U2TX/I2C1SDA, 33 PG4/WT0CCP0/U2RX/I2C1SCL, 34 PG3/T5CCP1/I2C4SDA, 35 PG2/T5CCP0/I2C4SCL, 36 PG1/T4CCP1/I2C3SDA, 37 PG0/T4CCP0/I2C3SCL, 38 ~{{RST}}, 39 GND, 40 OSC0, 41 OSC1, 42 VDD, 43 U6RX/WT4CCP0/PD4, 44 U6TX/WT4CCP1/PD5, 45 U1RX/T2CCP0/PB0, 46 U1TX/T2CCP1/PB1, 47 I2C0SCL/T3CCP0/PB2, 48 I2C0SDA/T3CCP1/PB3, 49 TDO/SWO/T5CCP1/PC3, 50 TDI/T5CCP0/PC2, 51 TMS/SWDIO/T4CCP1/PC1, 52 TCK/SWCLK/T4CCP0/PC0, 53 U2RX/WT5CCP0/PD6, 54 VDD, 55 GND, 56 VDDC, 57 AIN11/CAN0TX/SSI2FSS/T1CCP1/PB5, 58 AIN10/CAN0RX/SSI2CLK/T1CCP0/PB4, 59 PE4/AIN9/U5RX/I2C2SCL/CAN0RX, 60 PE5/AIN8/U5TX/I2C2SDA/CAN0TX, 61 AIN7/I2C3SCL/SSI1CLK/SSI3CLK/WT2CCP0/PD0, 62 AIN6/I2C3SDA/SSI1FSS/SSI3FSS/WT2CCP1/PD1, 63 AIN5/SSI1RX/SSI3RX/WT3CCP0/PD2, 64 AIN4/SSI1TX/SSI3TX/WT3CCP1/PD3

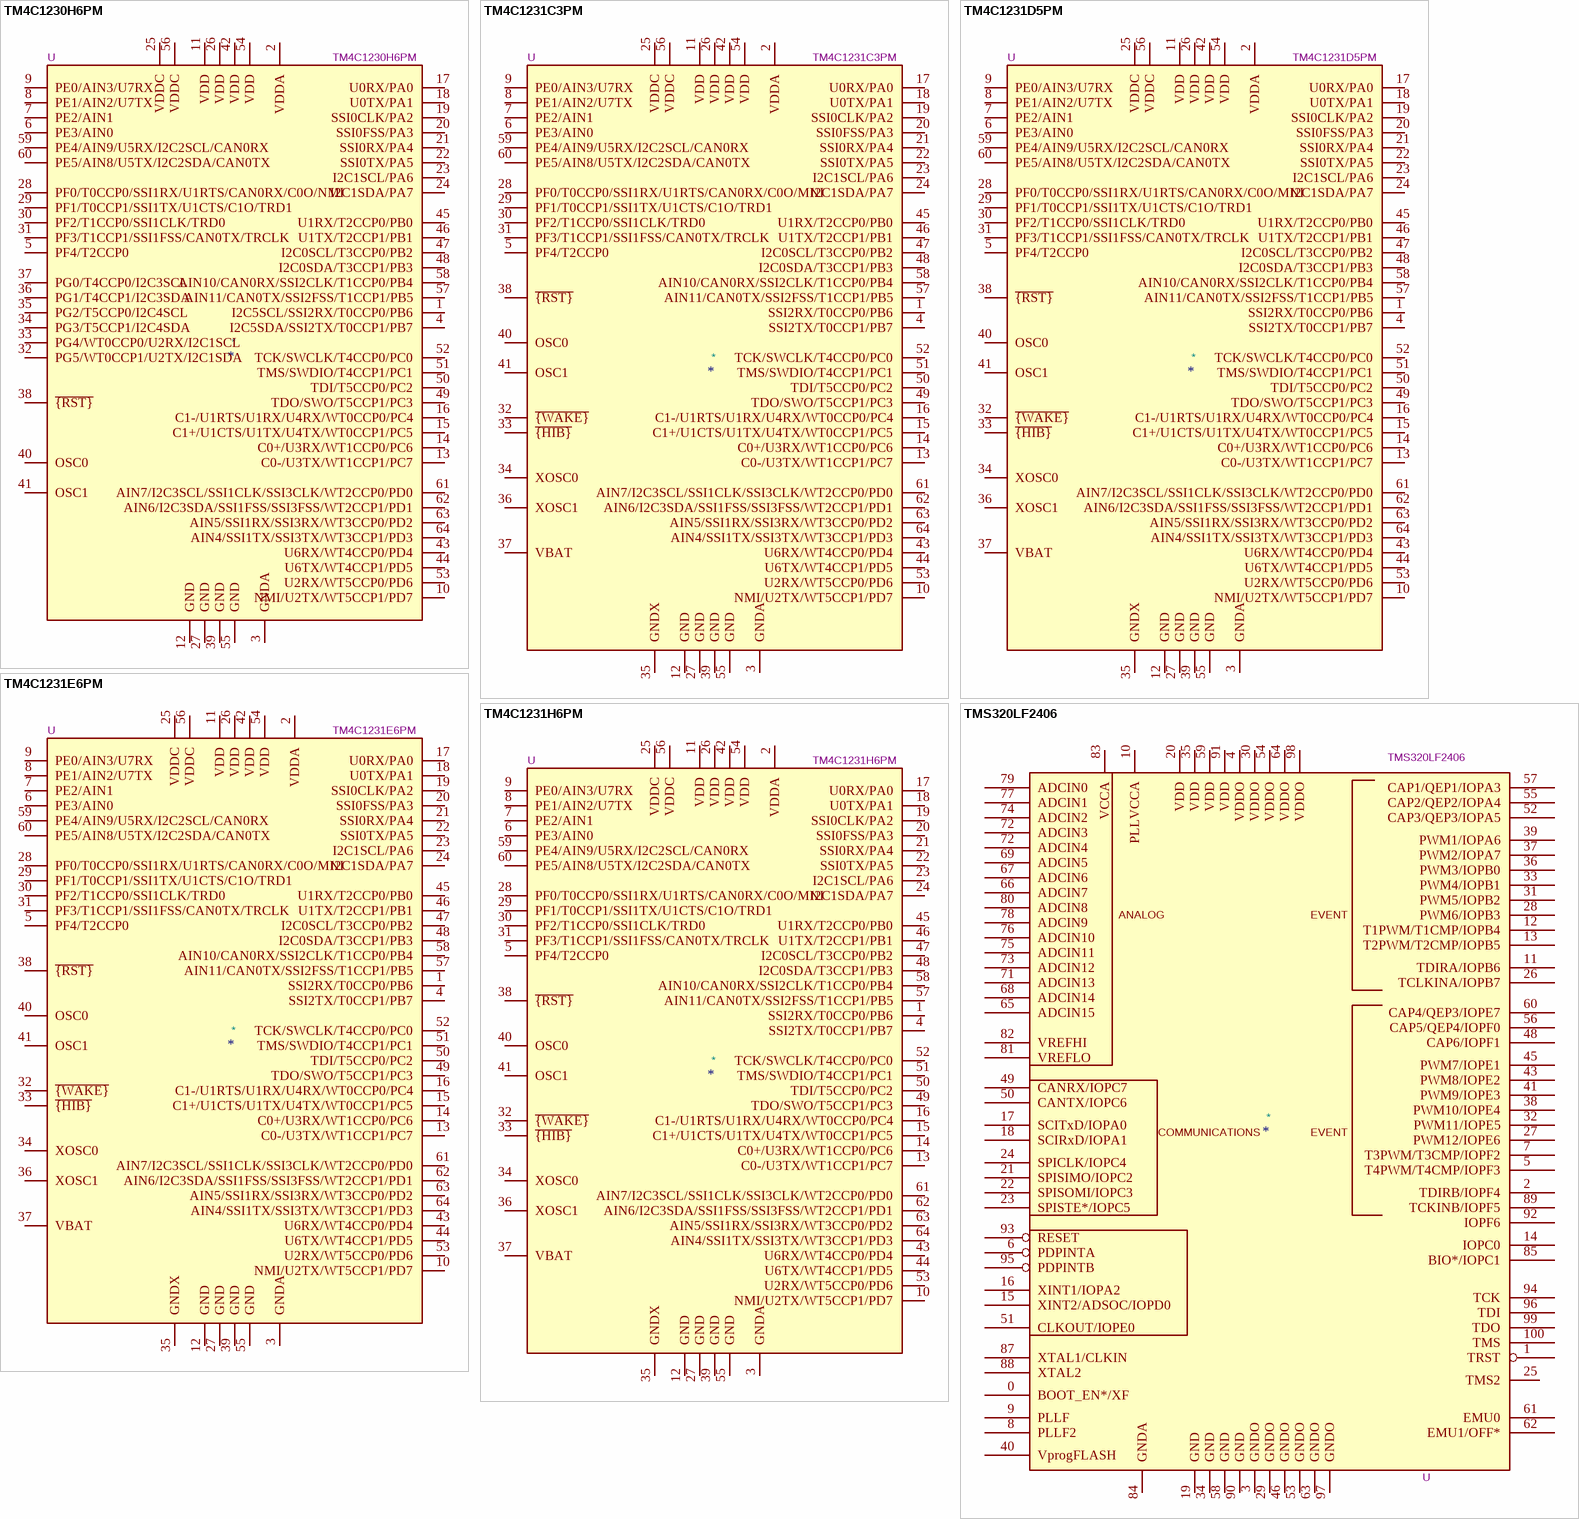
[diagram p3: symbols TM4C1230H6PM to TMS320LF2406]

## TM4C1230H6PM
designator *  value TM4C1230H6PM  Reference: U
Tiva ARM 32bit CortexM4 Microcotroller, 80MHz, 256kB Flash, 32kB SRAM, 2k EEPROM, LQFP64; ki_keywords: ARM Tiva Cortex M4 MCU; ki_fp_filters: LQFP*10x10mm*P0.5mm*; Footprint: Package_QFP:LQFP-64_10x10mm_P0.5mm; Datasheet: http://www.ti.com/lit/ds/symlink/tm4c1230h6pm.pdf; Description_: Tiva ARM 32bit CortexM4 Microcotroller, 80MHz, 256kB Flash, 32kB SRAM, 2k EEPROM, LQFP64
pins: 1 I2C5SCL/SSI2RX/T0CCP0/PB6, 2 VDDA, 3 GNDA, 4 I2C5SDA/SSI2TX/T0CCP1/PB7, 5 PF4/T2CCP0, 6 PE3/AIN0, 7 PE2/AIN1, 8 PE1/AIN2/U7TX, 9 PE0/AIN3/U7RX, 10 NMI/U2TX/WT5CCP1/PD7, 11 VDD, 12 GND, 13 C0-/U3TX/WT1CCP1/PC7, 14 C0+/U3RX/WT1CCP0/PC6, 15 C1+/U1CTS/U1TX/U4TX/WT0CCP1/PC5, 16 C1-/U1RTS/U1RX/U4RX/WT0CCP0/PC4, 17 U0RX/PA0, 18 U0TX/PA1, 19 SSI0CLK/PA2, 20 SSI0FSS/PA3, 21 SSI0RX/PA4, 22 SSI0TX/PA5, 23 I2C1SCL/PA6, 24 I2C1SDA/PA7, 25 VDDC, 26 VDD, 27 GND, 28 PF0/T0CCP0/SSI1RX/U1RTS/CAN0RX/C0O/NMI, 29 PF1/T0CCP1/SSI1TX/U1CTS/C1O/TRD1, 30 PF2/T1CCP0/SSI1CLK/TRD0, 31 PF3/T1CCP1/SSI1FSS/CAN0TX/TRCLK, 32 PG5/WT0CCP1/U2TX/I2C1SDA, 33 PG4/WT0CCP0/U2RX/I2C1SCL, 34 PG3/T5CCP1/I2C4SDA, 35 PG2/T5CCP0/I2C4SCL, 36 PG1/T4CCP1/I2C3SDA, 37 PG0/T4CCP0/I2C3SCL, 38 ~{{RST}}, 39 GND, 40 OSC0, 41 OSC1, 42 VDD, 43 U6RX/WT4CCP0/PD4, 44 U6TX/WT4CCP1/PD5, 45 U1RX/T2CCP0/PB0, 46 U1TX/T2CCP1/PB1, 47 I2C0SCL/T3CCP0/PB2, 48 I2C0SDA/T3CCP1/PB3, 49 TDO/SWO/T5CCP1/PC3, 50 TDI/T5CCP0/PC2, 51 TMS/SWDIO/T4CCP1/PC1, 52 TCK/SWCLK/T4CCP0/PC0, 53 U2RX/WT5CCP0/PD6, 54 VDD, 55 GND, 56 VDDC, 57 AIN11/CAN0TX/SSI2FSS/T1CCP1/PB5, 58 AIN10/CAN0RX/SSI2CLK/T1CCP0/PB4, 59 PE4/AIN9/U5RX/I2C2SCL/CAN0RX, 60 PE5/AIN8/U5TX/I2C2SDA/CAN0TX, 61 AIN7/I2C3SCL/SSI1CLK/SSI3CLK/WT2CCP0/PD0, 62 AIN6/I2C3SDA/SSI1FSS/SSI3FSS/WT2CCP1/PD1, 63 AIN5/SSI1RX/SSI3RX/WT3CCP0/PD2, 64 AIN4/SSI1TX/SSI3TX/WT3CCP1/PD3

## TM4C1231C3PM
designator *  value TM4C1231C3PM  Reference: U
Tiva ARM 32bit CortexM4 Microcotroller, 80MHz, 32kB Flash, 12kB SRAM, 2k EEPROM, LQFP64; ki_keywords: ARM Tiva Cortex M4 MCU; ki_fp_filters: LQFP*10x10mm*P0.5*; Footprint: Package_QFP:LQFP-64_10x10mm_P0.5mm; Datasheet: http://www.ti.com/lit/ds/symlink/tm4c1231c3pm.pdf; Description_: Tiva ARM 32bit CortexM4 Microcotroller, 80MHz, 32kB Flash, 12kB SRAM, 2k EEPROM, LQFP64
pins: 1 SSI2RX/T0CCP0/PB6, 2 VDDA, 3 GNDA, 4 SSI2TX/T0CCP1/PB7, 5 PF4/T2CCP0, 6 PE3/AIN0, 7 PE2/AIN1, 8 PE1/AIN2/U7TX, 9 PE0/AIN3/U7RX, 10 NMI/U2TX/WT5CCP1/PD7, 11 VDD, 12 GND, 13 C0-/U3TX/WT1CCP1/PC7, 14 C0+/U3RX/WT1CCP0/PC6, 15 C1+/U1CTS/U1TX/U4TX/WT0CCP1/PC5, 16 C1-/U1RTS/U1RX/U4RX/WT0CCP0/PC4, 17 U0RX/PA0, 18 U0TX/PA1, 19 SSI0CLK/PA2, 20 SSI0FSS/PA3, 21 SSI0RX/PA4, 22 SSI0TX/PA5, 23 I2C1SCL/PA6, 24 I2C1SDA/PA7, 25 VDDC, 26 VDD, 27 GND, 28 PF0/T0CCP0/SSI1RX/U1RTS/CAN0RX/C0O/MNI, 29 PF1/T0CCP1/SSI1TX/U1CTS/C1O/TRD1, 30 PF2/T1CCP0/SSI1CLK/TRD0, 31 PF3/T1CCP1/SSI1FSS/CAN0TX/TRCLK, 32 ~{{WAKE}}, 33 ~{{HIB}}, 34 XOSC0, 35 GNDX, 36 XOSC1, 37 VBAT, 38 ~{{RST}}, 39 GND, 40 OSC0, 41 OSC1, 42 VDD, 43 U6RX/WT4CCP0/PD4, 44 U6TX/WT4CCP1/PD5, 45 U1RX/T2CCP0/PB0, 46 U1TX/T2CCP1/PB1, 47 I2C0SCL/T3CCP0/PB2, 48 I2C0SDA/T3CCP1/PB3, 49 TDO/SWO/T5CCP1/PC3, 50 TDI/T5CCP0/PC2, 51 TMS/SWDIO/T4CCP1/PC1, 52 TCK/SWCLK/T4CCP0/PC0, 53 U2RX/WT5CCP0/PD6, 54 VDD, 55 GND, 56 VDDC, 57 AIN11/CAN0TX/SSI2FSS/T1CCP1/PB5, 58 AIN10/CAN0RX/SSI2CLK/T1CCP0/PB4, 59 PE4/AIN9/U5RX/I2C2SCL/CAN0RX, 60 PE5/AIN8/U5TX/I2C2SDA/CAN0TX, 61 AIN7/I2C3SCL/SSI1CLK/SSI3CLK/WT2CCP0/PD0, 62 AIN6/I2C3SDA/SSI1FSS/SSI3FSS/WT2CCP1/PD1, 63 AIN5/SSI1RX/SSI3RX/WT3CCP0/PD2, 64 AIN4/SSI1TX/SSI3TX/WT3CCP1/PD3

## TM4C1231D5PM
designator *  value TM4C1231D5PM  Reference: U
Tiva ARM 32bit CortexM4 Microcotroller, 80MHz, 64kB Flash, 24kB SRAM, 2k EEPROM, LQFP64; ki_keywords: ARM Tiva Cortex M4 MCU; ki_fp_filters: LQFP*10x10mm*P0.5*; Footprint: Package_QFP:LQFP-64_10x10mm_P0.5mm; Datasheet: http://www.ti.com/lit/ds/symlink/tm4c1231d5pm.pdf; Description_: Tiva ARM 32bit CortexM4 Microcotroller, 80MHz, 64kB Flash, 24kB SRAM, 2k EEPROM, LQFP64
pins: 1 SSI2RX/T0CCP0/PB6, 2 VDDA, 3 GNDA, 4 SSI2TX/T0CCP1/PB7, 5 PF4/T2CCP0, 6 PE3/AIN0, 7 PE2/AIN1, 8 PE1/AIN2/U7TX, 9 PE0/AIN3/U7RX, 10 NMI/U2TX/WT5CCP1/PD7, 11 VDD, 12 GND, 13 C0-/U3TX/WT1CCP1/PC7, 14 C0+/U3RX/WT1CCP0/PC6, 15 C1+/U1CTS/U1TX/U4TX/WT0CCP1/PC5, 16 C1-/U1RTS/U1RX/U4RX/WT0CCP0/PC4, 17 U0RX/PA0, 18 U0TX/PA1, 19 SSI0CLK/PA2, 20 SSI0FSS/PA3, 21 SSI0RX/PA4, 22 SSI0TX/PA5, 23 I2C1SCL/PA6, 24 I2C1SDA/PA7, 25 VDDC, 26 VDD, 27 GND, 28 PF0/T0CCP0/SSI1RX/U1RTS/CAN0RX/C0O/MNI, 29 PF1/T0CCP1/SSI1TX/U1CTS/C1O/TRD1, 30 PF2/T1CCP0/SSI1CLK/TRD0, 31 PF3/T1CCP1/SSI1FSS/CAN0TX/TRCLK, 32 ~{{WAKE}}, 33 ~{{HIB}}, 34 XOSC0, 35 GNDX, 36 XOSC1, 37 VBAT, 38 ~{{RST}}, 39 GND, 40 OSC0, 41 OSC1, 42 VDD, 43 U6RX/WT4CCP0/PD4, 44 U6TX/WT4CCP1/PD5, 45 U1RX/T2CCP0/PB0, 46 U1TX/T2CCP1/PB1, 47 I2C0SCL/T3CCP0/PB2, 48 I2C0SDA/T3CCP1/PB3, 49 TDO/SWO/T5CCP1/PC3, 50 TDI/T5CCP0/PC2, 51 TMS/SWDIO/T4CCP1/PC1, 52 TCK/SWCLK/T4CCP0/PC0, 53 U2RX/WT5CCP0/PD6, 54 VDD, 55 GND, 56 VDDC, 57 AIN11/CAN0TX/SSI2FSS/T1CCP1/PB5, 58 AIN10/CAN0RX/SSI2CLK/T1CCP0/PB4, 59 PE4/AIN9/U5RX/I2C2SCL/CAN0RX, 60 PE5/AIN8/U5TX/I2C2SDA/CAN0TX, 61 AIN7/I2C3SCL/SSI1CLK/SSI3CLK/WT2CCP0/PD0, 62 AIN6/I2C3SDA/SSI1FSS/SSI3FSS/WT2CCP1/PD1, 63 AIN5/SSI1RX/SSI3RX/WT3CCP0/PD2, 64 AIN4/SSI1TX/SSI3TX/WT3CCP1/PD3

## TM4C1231E6PM
designator *  value TM4C1231E6PM  Reference: U
Tiva ARM 32bit CortexM4 Microcotroller, 80MHz, 128kB Flash, 32kB SRAM, 2k EEPROM, LQFP64; ki_keywords: ARM Tiva Cortex M4 MCU; ki_fp_filters: LQFP*10x10mm*P0.5*; Footprint: Package_QFP:LQFP-64_10x10mm_P0.5mm; Datasheet: http://www.ti.com/lit/ds/symlink/tm4c1231e6pm.pdf; Description_: Tiva ARM 32bit CortexM4 Microcotroller, 80MHz, 128kB Flash, 32kB SRAM, 2k EEPROM, LQFP64
pins: 1 SSI2RX/T0CCP0/PB6, 2 VDDA, 3 GNDA, 4 SSI2TX/T0CCP1/PB7, 5 PF4/T2CCP0, 6 PE3/AIN0, 7 PE2/AIN1, 8 PE1/AIN2/U7TX, 9 PE0/AIN3/U7RX, 10 NMI/U2TX/WT5CCP1/PD7, 11 VDD, 12 GND, 13 C0-/U3TX/WT1CCP1/PC7, 14 C0+/U3RX/WT1CCP0/PC6, 15 C1+/U1CTS/U1TX/U4TX/WT0CCP1/PC5, 16 C1-/U1RTS/U1RX/U4RX/WT0CCP0/PC4, 17 U0RX/PA0, 18 U0TX/PA1, 19 SSI0CLK/PA2, 20 SSI0FSS/PA3, 21 SSI0RX/PA4, 22 SSI0TX/PA5, 23 I2C1SCL/PA6, 24 I2C1SDA/PA7, 25 VDDC, 26 VDD, 27 GND, 28 PF0/T0CCP0/SSI1RX/U1RTS/CAN0RX/C0O/MNI, 29 PF1/T0CCP1/SSI1TX/U1CTS/C1O/TRD1, 30 PF2/T1CCP0/SSI1CLK/TRD0, 31 PF3/T1CCP1/SSI1FSS/CAN0TX/TRCLK, 32 ~{{WAKE}}, 33 ~{{HIB}}, 34 XOSC0, 35 GNDX, 36 XOSC1, 37 VBAT, 38 ~{{RST}}, 39 GND, 40 OSC0, 41 OSC1, 42 VDD, 43 U6RX/WT4CCP0/PD4, 44 U6TX/WT4CCP1/PD5, 45 U1RX/T2CCP0/PB0, 46 U1TX/T2CCP1/PB1, 47 I2C0SCL/T3CCP0/PB2, 48 I2C0SDA/T3CCP1/PB3, 49 TDO/SWO/T5CCP1/PC3, 50 TDI/T5CCP0/PC2, 51 TMS/SWDIO/T4CCP1/PC1, 52 TCK/SWCLK/T4CCP0/PC0, 53 U2RX/WT5CCP0/PD6, 54 VDD, 55 GND, 56 VDDC, 57 AIN11/CAN0TX/SSI2FSS/T1CCP1/PB5, 58 AIN10/CAN0RX/SSI2CLK/T1CCP0/PB4, 59 PE4/AIN9/U5RX/I2C2SCL/CAN0RX, 60 PE5/AIN8/U5TX/I2C2SDA/CAN0TX, 61 AIN7/I2C3SCL/SSI1CLK/SSI3CLK/WT2CCP0/PD0, 62 AIN6/I2C3SDA/SSI1FSS/SSI3FSS/WT2CCP1/PD1, 63 AIN5/SSI1RX/SSI3RX/WT3CCP0/PD2, 64 AIN4/SSI1TX/SSI3TX/WT3CCP1/PD3

## TM4C1231H6PM
designator *  value TM4C1231H6PM  Reference: U
Tiva ARM 32bit CortexM4 Microcotroller, 80MHz, 256kB Flash, 32kB SRAM, 2k EEPROM, LQFP64; ki_keywords: ARM Tiva Cortex M4 MCU; ki_fp_filters: LQFP*10x10mm*P0.5*; Footprint: Package_QFP:LQFP-64_10x10mm_P0.5mm; Datasheet: http://www.ti.com/lit/ds/symlink/tm4c1231h6pm.pdf; Description_: Tiva ARM 32bit CortexM4 Microcotroller, 80MHz, 256kB Flash, 32kB SRAM, 2k EEPROM, LQFP64
pins: 1 SSI2RX/T0CCP0/PB6, 2 VDDA, 3 GNDA, 4 SSI2TX/T0CCP1/PB7, 5 PF4/T2CCP0, 6 PE3/AIN0, 7 PE2/AIN1, 8 PE1/AIN2/U7TX, 9 PE0/AIN3/U7RX, 10 NMI/U2TX/WT5CCP1/PD7, 11 VDD, 12 GND, 13 C0-/U3TX/WT1CCP1/PC7, 14 C0+/U3RX/WT1CCP0/PC6, 15 C1+/U1CTS/U1TX/U4TX/WT0CCP1/PC5, 16 C1-/U1RTS/U1RX/U4RX/WT0CCP0/PC4, 17 U0RX/PA0, 18 U0TX/PA1, 19 SSI0CLK/PA2, 20 SSI0FSS/PA3, 21 SSI0RX/PA4, 22 SSI0TX/PA5, 23 I2C1SCL/PA6, 24 I2C1SDA/PA7, 25 VDDC, 26 VDD, 27 GND, 28 PF0/T0CCP0/SSI1RX/U1RTS/CAN0RX/C0O/MNI, 29 PF1/T0CCP1/SSI1TX/U1CTS/C1O/TRD1, 30 PF2/T1CCP0/SSI1CLK/TRD0, 31 PF3/T1CCP1/SSI1FSS/CAN0TX/TRCLK, 32 ~{{WAKE}}, 33 ~{{HIB}}, 34 XOSC0, 35 GNDX, 36 XOSC1, 37 VBAT, 38 ~{{RST}}, 39 GND, 40 OSC0, 41 OSC1, 42 VDD, 43 U6RX/WT4CCP0/PD4, 44 U6TX/WT4CCP1/PD5, 45 U1RX/T2CCP0/PB0, 46 U1TX/T2CCP1/PB1, 47 I2C0SCL/T3CCP0/PB2, 48 I2C0SDA/T3CCP1/PB3, 49 TDO/SWO/T5CCP1/PC3, 50 TDI/T5CCP0/PC2, 51 TMS/SWDIO/T4CCP1/PC1, 52 TCK/SWCLK/T4CCP0/PC0, 53 U2RX/WT5CCP0/PD6, 54 VDD, 55 GND, 56 VDDC, 57 AIN11/CAN0TX/SSI2FSS/T1CCP1/PB5, 58 AIN10/CAN0RX/SSI2CLK/T1CCP0/PB4, 59 PE4/AIN9/U5RX/I2C2SCL/CAN0RX, 60 PE5/AIN8/U5TX/I2C2SDA/CAN0TX, 61 AIN7/I2C3SCL/SSI1CLK/SSI3CLK/WT2CCP0/PD0, 62 AIN6/I2C3SDA/SSI1FSS/SSI3FSS/WT2CCP1/PD1, 63 AIN5/SSI1RX/SSI3RX/WT3CCP0/PD2, 64 AIN4/SSI1TX/SSI3TX/WT3CCP1/PD3

## TMS320LF2406
designator *  value TMS320LF2406  Reference: U
pins: 0 BOOT_EN*/XF, 1 TRST, 2 TDIRB/IOPF4, 3 GNDO, 4 VDDO, 5 T4PWM/T4CMP/IOPF3, 6 PDPINTA, 7 T3PWM/T3CMP/IOPF2, 8 PLLF2, 9 PLLF, 10 PLLVCCA, 11 TDIRA/IOPB6, 12 T1PWM/T1CMP/IOPB4, 13 T2PWM/T2CMP/IOPB5, 14 IOPC0, 15 XINT2/ADSOC/IOPD0, 16 XINT1/IOPA2, 17 SCITxD/IOPA0, 18 SCIRxD/IOPA1, 19 GND, 20 VDD, 21 SPISIMO/IOPC2, 22 SPISOMI/IOPC3, 23 SPISTE*/IOPC5, 24 SPICLK/IOPC4, 25 TMS2, 26 TCLKINA/IOPB7, 27 PWM12/IOPE6, 28 PWM6/IOPB3, 29 GNDO, 30 VDDO, 31 PWM5/IOPB2, 32 PWM11/IOPE5, 33 PWM4/IOPB1, 34 GND, 35 VDD, 36 PWM3/IOPB0, 37 PWM2/IOPA7, 38 PWM10/IOPE4, 39 PWM1/IOPA6, 40 VprogFLASH, 41 PWM9/IOPE3, 43 PWM8/IOPE2, 45 PWM7/IOPE1, 46 GNDO, 48 CAP6/IOPF1, 49 CANRX/IOPC7, 50 CANTX/IOPC6, 51 CLKOUT/IOPE0, 52 CAP3/QEP3/IOPA5, 53 GNDO, 54 VDDO, 55 CAP2/QEP2/IOPA4, 56 CAP5/QEP4/IOPF0, 57 CAP1/QEP1/IOPA3, 58 GND, 59 VDD, 60 CAP4/QEP3/IOPE7, 61 EMU0, 62 EMU1/OFF*, 63 GNDO, 64 VDDO, 65 ADCIN15, 66 ADCIN7, 67 ADCIN6, 68 ADCIN14, 69 ADCIN5, 71 ADCIN13, 72 ADCIN4, 72 ADCIN3, 73 ADCIN12, 74 ADCIN2, 75 ADCIN11, 76 ADCIN10, 77 ADCIN1, 78 ADCIN9, 79 ADCIN0, 80 ADCIN8, 81 VREFLO, 82 VREFHI, 83 VCCA, 84 GNDA, 85 BIO*/IOPC1, 87 XTAL1/CLKIN, 88 XTAL2, 89 TCKINB/IOPF5, 90 GND, 91 VDD, 92 IOPF6, 93 RESET, 94 TCK, 95 PDPINTB, 96 TDI, 97 GNDO, 98 VDDO, 99 TDO, 100 TMS
text: ANALOG; EVENT; COMMUNICATIONS

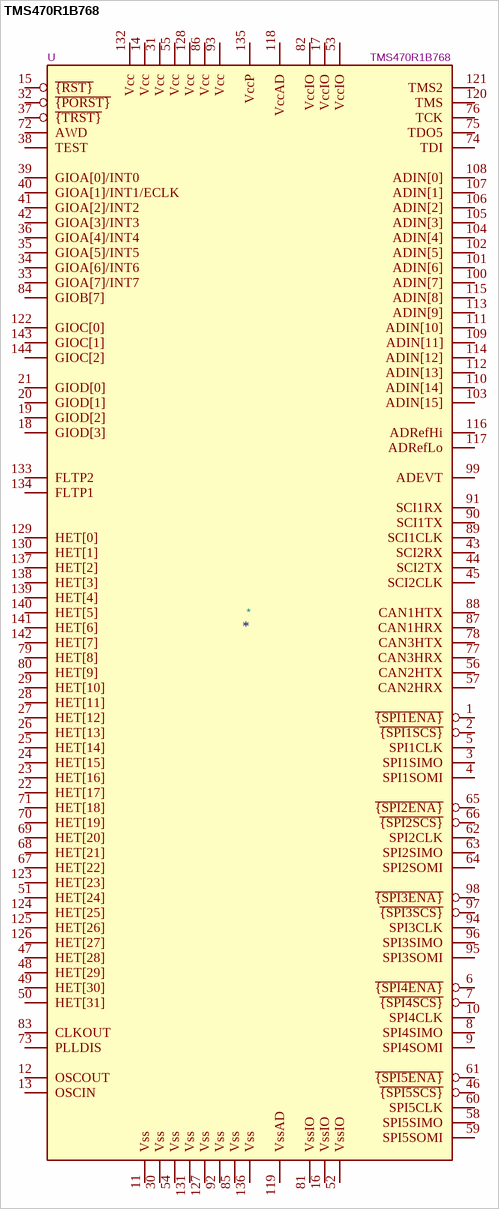
[diagram p4: symbol TMS470R1B768]

## TMS470R1B768
designator *  value TMS470R1B768  Reference: U
ARM7TDM Microcontroller, 768KB Flash, 48KB RAM, PQFP-144; ki_keywords: ARM 7TDM uC TMS470; ki_fp_filters: PQFP-144*; Datasheet: http://www.ti.com/lit/ds/symlink/tms470r1b768.pdf; Description_: ARM7TDM Microcontroller, 768KB Flash, 48KB RAM, PQFP-144
pins: 1 ~{{SPI1ENA}}, 2 ~{{SPI1SCS}}, 3 SPI1SIMO, 4 SPI1SOMI, 5 SPI1CLK, 6 ~{{SPI4ENA}}, 7 ~{{SPI4SCS}}, 8 SPI4SIMO, 9 SPI4SOMI, 10 SPI4CLK, 11 Vss, 12 OSCOUT, 13 OSCIN, 14 Vcc, 15 ~{{RST}}, 16 VssIO, 17 VccIO, 18 GIOD[3], 19 GIOD[2], 20 GIOD[1], 21 GIOD[0], 22 HET[17], 23 HET[16], 24 HET[15], 25 HET[14], 26 HET[13], 27 HET[12], 28 HET[11], 29 HET[10], 30 Vss, 31 Vcc, 32 ~{{PORST}}, 33 GIOA[7]/INT7, 34 GIOA[6]/INT6, 35 GIOA[5]/INT5, 36 GIOA[4]/INT4, 37 ~{{TRST}}, 38 TEST, 39 GIOA[0]/INT0, 40 GIOA[1]/INT1/ECLK, 41 GIOA[2]/INT2, 42 GIOA[3]/INT3, 43 SCI2RX, 44 SCI2TX, 45 SCI2CLK, 46 ~{{SPI5SCS}}, 47 HET[28], 48 HET[29], 49 HET[30], 50 HET[31], 51 HET[24], 52 VssIO, 53 VccIO, 54 Vss, 55 Vcc, 56 CAN2HTX, 57 CAN2HRX, 58 SPI5SIMO, 59 SPI5SOMI, 60 SPI5CLK, 61 ~{{SPI5ENA}}, 62 SPI2CLK, 63 SPI2SIMO, 64 SPI2SOMI, 65 ~{{SPI2ENA}}, 66 ~{{SPI2SCS}}, 67 HET[22], 68 HET[21], 69 HET[20], 70 HET[19], 71 HET[18], 72 AWD, 73 PLLDIS, 74 TDI, 75 TDO5, 76 TCK, 77 CAN3HRX, 78 CAN3HTX, 79 HET[8], 80 HET[9], 81 VssIO, 82 VccIO, 83 CLKOUT, 84 GIOB[7], 85 Vss, 86 Vcc, 87 CAN1HRX, 88 CAN1HTX, 89 SCI1CLK, 90 SCI1TX, 91 SCI1RX, 92 Vss, 93 Vcc, 94 SPI3CLK, 95 SPI3SOMI, 96 SPI3SIMO, 97 ~{{SPI3SCS}}, 98 ~{{SPI3ENA}}, 99 ADEVT, 100 ADIN[7], 101 ADIN[6], 102 ADIN[5], 103 ADIN[15], 104 ADIN[4], 105 ADIN[3], 106 ADIN[2], 107 ADIN[1], 108 ADIN[0], 109 ADIN[11], 110 ADIN[14], 111 ADIN[10], 112 ADIN[13], 113 ADIN[9], 114 ADIN[12], 115 ADIN[8], 116 ADRefHi, 117 ADRefLo, 118 VccAD, 119 VssAD, 120 TMS, 121 TMS2, 122 GIOC[0], 123 HET[23], 124 HET[25], 125 HET[26], 126 HET[27], 127 Vss, 128 Vcc, 129 HET[0], 130 HET[1], 131 Vss, 132 Vcc, 133 FLTP2, 134 FLTP1, 135 VccP, 136 Vss, 137 HET[2], 138 HET[3], 139 HET[4], 140 HET[5], 141 HET[6], 142 HET[7], 143 GIOC[1], 144 GIOC[2]